# Altium schematic symbol library EwgMicrochips.SchLib: 118 symbols (part 1 of 2)
Pins are listed as number, name and electrical type; pins without a type are passive.

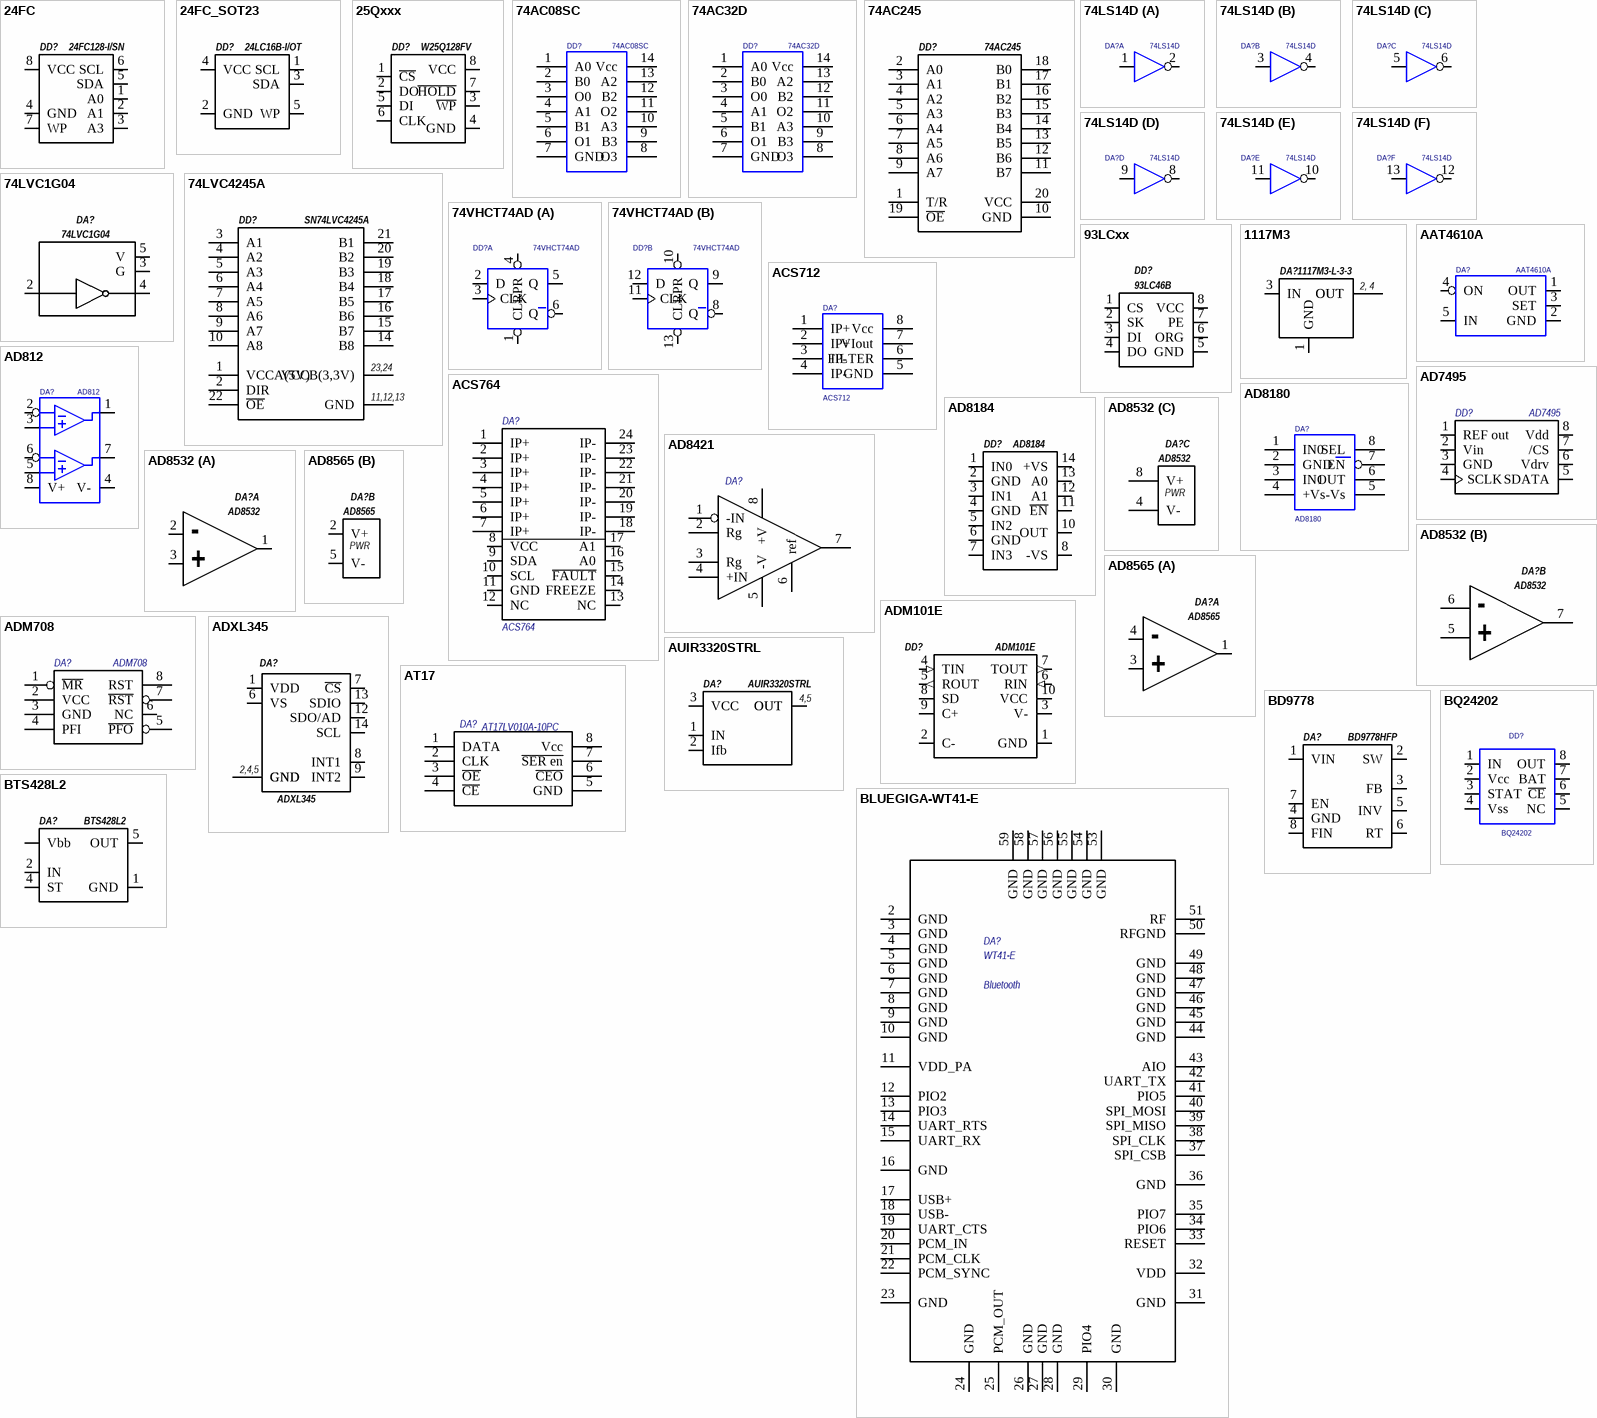
[diagram p0: symbols 24FC to BTS428L2]

## 24FC
designator DD?, comment 24FC128-I/SN
Память EEPROM; Производитель: Microchip; Тип корпуса: SO8; Тип монтажа: Поверхностный; Характеристики: 16КБ; Наименование: 24FC128-I/SN; Тип компонента: Память EEPROM
footprint SO8-3.9
pins: 1 A0, 2 A1, 3 A3, 4 GND, 5 SDA, 6 SCL, 7 WP, 8 VCC

## 24FC_SOT23
designator DD?, comment 24LC16B-I/OT
Память EEPROM; Производитель: Microchip; Тип корпуса: SO8; Тип монтажа: Поверхностный; Характеристики: 16Кбит; Наименование: 24LC16B-I/OT; Тип компонента: Память EEPROM
footprint SOT23-5
pins: 1 SCL, 2 GND, 3 SDA, 4 VCC, 5 WP

## 25Qxxx
designator DD?, comment W25Q128FV
Память EEPROM; Производитель: Winbond; Тип корпуса: SO8; Тип монтажа: Поверхностный; Характеристики: 16МБ; Наименование: W25Q128FV; Тип компонента: Память EEPROM
footprint SO8-5.3
pins: 1 ~{CS}, 2 DO, 3 ~{WP}, 4 GND, 5 DI, 6 CLK, 7 ~{HOLD}, 8 VCC

## 74AC08SC
designator DD?
Микросхема - Логика; Тип корпуса: SO14; Тип монтажа: Поверхностный; Value: *; Наименование: 74AC08SC; Тип компонента: Микросхема - Логика
footprint SO14
pins: 1 A0, 2 B0, 3 O0, 4 A1, 5 B1, 6 O1, 7 GND, 8 O3, 9 B3, 10 A3, 11 O2, 12 B2, 13 A2, 14 Vcc

## 74AC32D
designator DD?
Микросхема - Логика; Тип корпуса: SO14; Тип монтажа: Поверхностный; Value: *; Наименование: 74AC32D; Тип компонента: Микросхема - Логика
footprint SO14
pins: 1 A0, 2 B0, 3 O0, 4 A1, 5 B1, 6 O1, 7 GND, 8 O3, 9 B3, 10 A3, 11 O2, 12 B2, 13 A2, 14 Vcc

## 74AC245
designator DD?
Буфер приемо-передающий 8 кан.; Производитель: ON Semiconductor; Тип корпуса: SSOP20; Тип монтажа: Поверхностный; Наименование: 74AC245; Тип компонента: Буфер приемо-передающий 8 кан.
footprint SSOP20-4.4
pins: 1 T/R, 2 A0, 3 A1, 4 A2, 5 A3, 6 A4, 7 A5, 8 A6, 9 A7, 10 GND, 11 B7, 12 B6, 13 B5, 14 B4, 15 B3, 16 B2, 17 B1, 18 B0, 19 ~{OE}, 20 VCC

## 74LS14D
designator DA?
Микросхема - Логика; Тип корпуса: SO14; Тип монтажа: Поверхностный; Value: *; Наименование: 74LS14D; Тип компонента: Микросхема - Логика
footprint SO14
pins on every part: 7 GND (power) hidden, 14 5V (power) hidden
part A pins: 1, 2
part B pins: 3, 4
part C pins: 5, 6
part D pins: 8, 9
part E pins: 10, 11
part F pins: 12, 13

## 74LVC1G04
designator DA?
Логический элемент НЕ; Производитель: NXP; Тип монтажа: Поверхностный; Наименование: 74LVC1G04; Тип компонента: Логический элемент НЕ
footprint SOT323-5
pins: 2 A, 3 G, 4 Y, 5 V

## 74LVC4245A
designator DD?, comment SN74LVC4245A
Буфер приемо-передающий 8 кан.; Производитель: ON Semiconductor; Тип корпуса: SSOP20; Тип монтажа: Поверхностный; Наименование: SN74LVC4245A; Тип компонента: Буфер приемо-передающий 8 кан.
footprint SO24
pins: 1 VCCA(5V), 2 DIR, 3 A1, 4 A2, 5 A3, 6 A4, 7 A5, 8 A6, 9 A7, 10 A8, 11 GND, 12 GND, 13 GND, 14 B8, 15 B7, 16 B6, 17 B5, 18 B4, 19 B3, 20 B2, 21 B1, 22 ~{OE}, 23 VCCB(3,3V), 24 VCCB(3,3V)
text: 23,24; 11,12,13

## 74VHCT74AD
designator DD?
Микросхема - Логика; Тип корпуса: SO14; Тип монтажа: Поверхностный; Value: *; Наименование: 74VHCT74AD; Тип компонента: Микросхема - Логика
footprint SO14
pins on every part: 7 GND (power) hidden, 14 5V (power) hidden
part A pins: 1 CLR, 2 D, 3 CLK, 4 PR, 5 Q, 6 Q
part B pins: 8 Q, 9 Q, 10 PR, 11 CLK, 12 D, 13 CLR

## 93LCxx
designator DD?, comment 93LC46B
Память EEPROM; Тип корпуса: SO8; Тип монтажа: Поверхностный; Характеристики: 1Kбит; Наименование: 93LC46B; Тип компонента: Память EEPROM
footprint SO8-3.9
pins: 1 CS, 2 SK, 3 DI, 4 DO, 5 GND, 6 ORG, 7 PE, 8 VCC

## 1117M3
designator DA?, comment 1117M3-L-3-3
DC преобразователь линейный; Производитель: Exar Corporation; Тип корпуса: SOT223; Тип монтажа: Поверхностный; Характеристики: 3.3В 800мА; Наименование: 1117M3-L-3-3; Тип компонента: DC преобразователь линейный
footprint SOT223
footprint SOT223_P
pins: 1 GND, 2 OUT, 3 IN, 4 OUT
text: 2, 4

## AAT4610A
designator DA?
Электронный ключ; Наименование: Analog Tech, AAT4610A; Тип корпуса: SOT-23-5; Тип монтажа: Поверхностный; Value: *; Тип компонента: Электронный ключ
footprint SOT23-5
pins: 1 OUT, 2 GND, 3 SET, 4 ON, 5 IN

## ACS712
designator DA?
Датчик тока; Наименование: Allegro, ACS712ELCTR; Тип корпуса: SO8; Тип монтажа: Поверхностный; Value: *; Тип компонента: Датчик тока
footprint SO8
pins: 1 IP+, 2 IP+, 3 IP-, 4 IP-, 5 GND, 6 FILTER, 7 VIout, 8 Vcc

## ACS764
designator DA?
Датчик тока; Наименование: Allegro, ACS764; Примечание: GND-"30K"-"24K"-"43K"-VCC; Тип корпуса: SO8; Тип монтажа: Поверхностный; Value: *; Тип компонента: Датчик тока
footprint QSOP-24LF (SOP, 24-Leads, Body 8.8x4.0mm (max), Pitch 0.63mm,)
pins: 1 IP+, 2 IP+, 3 IP+, 4 IP+, 5 IP+, 6 IP+, 7 IP+, 8 VCC, 9 SDA, 10 SCL, 11 GND, 12 NC, 13 NC, 14 FREEZE, 15 ~{FAULT}, 16 A0, 17 A1, 18 IP-, 19 IP-, 20 IP-, 21 IP-, 22 IP-, 23 IP-, 24 IP-

## AD812
designator DA?
Микросхема - Операционный усилитель; Наименование: Analog Devices, AD812ARZ; Тип корпуса: SO8; Тип монтажа: Поверхностный; Value: *; Тип компонента: Микросхема - Операционный усилитель
footprint SO8
pins: 1, 2, 3, 4 V-, 5, 6, 7, 8 V+

## AD7495
designator DD?
Микросхема - 12-бит АЦП, SPI; Наименование: ANALOG DEVICES, AD7495; Тип корпуса: SO8; Тип монтажа: Поверхностный; Value: *; Тип компонента: Микросхема - 12-бит АЦП, SPI
footprint SO8
pins: 1 REF out "Ref out", 2 Vin, 3 GND, 4 SCLK "SPI CLOCK", 5 SDATA "SPI DATA OUT", 6 Vdrv "Logic power supply", 7 /CS "start conversion", 8 Vdd "Pwr supply"

## AD8180
designator DA?
Микросхема - Мультиплексор; Наименование: Analog Devices, AD8180ARZ; Тип корпуса: SO8; Тип монтажа: Поверхностный; Value: *; Тип компонента: Микросхема - Мультиплексор
footprint SO8
pins: 1 IN0, 2 GND, 3 IN1, 4 +Vs, 5 -Vs, 6 OUT, 7 EN, 8 SEL

## AD8184
designator DD?
Мультиплексор аналоговый 4:1; Производитель: Microchip; Тип корпуса: SO14; Тип монтажа: Поверхностный; Наименование: AD8184; Тип компонента: Мультиплексор аналоговый 4:1
footprint SO14-3.9
pins: 1 IN0, 2 GND, 3 IN1, 4 GND, 5 IN2, 6 GND, 7 IN3, 8 -VS, 10 OUT, 11 ~{EN}, 12 A1, 13 A0, 14 +VS

## AD8421
designator DA?  (value not drawn)
Микросхема - Иструментальный усилитель; Наименование: Analog Devices, AD8421BRZ; Тип корпуса: SO8; Тип монтажа: Поверхностный; Тип компонента: Микросхема - Иструментальный усилитель
footprint SO8
pins: 1 -IN, 2 Rg, 3 Rg, 4 +IN, 5 -V, 6 ref, 7 Vout, 8 +V

## AD8532
designator DA?
Операционный усилитель 2 кан.; Производитель: Analog Devices; Тип корпуса: SO8; Тип монтажа: Поверхностный; Характеристики: 2.7-6В, 250мА, rail-to-rail 50мВ, 3МГц; Наименование: AD8532; Тип компонента: Операционный усилитель 2 кан.
footprint SO8
part A pins: 1 outA, 2 -inA, 3 +inA
part B pins: 5 +inB, 6 -inB, 7 outB
part C pins: 4 V-, 8 V+
part A text: -; +
part B text: -; +
part C text: PWR

## AD8565
designator DA?
Операционный усилитель; Производитель: Analog Devices; Тип корпуса: SOT323-5; Тип монтажа: Поверхностный; Характеристики: 4.5-16В, 250мА, rail-to-rail 50мВ, 1МГц; Наименование: AD8565; Тип компонента: Операционный усилитель
footprint SOT323-5
part A pins: 1 outB, 3 +inB, 4 -inB
part B pins: 2 V+, 5 V-
part A text: -; +
part B text: PWR

## ADM101E
designator DD?
Интерфейс RS232; Производитель: Analog Devices; Тип корпуса: SOP10; Тип монтажа: Поверхностный; Наименование: ADM101E; Тип компонента: Интерфейс RS232
pins: 1 GND, 2 C-, 3 V-, 4 TIN (in), 5 ROUT (out), 6 RIN (in), 7 TOUT (out), 8 SD, 9 C+, 10 VCC

## ADM708
designator DA?
Монитор питания; Наименование: Analog devices, ADM708AR; Тип корпуса: SOIC8; Тип монтажа: Поверхностный; Value: ADM708; Тип компонента: Монитор питания
footprint SO8
pins: 1 ~{MR}, 2 VCC, 3 GND, 4 PFI, 5 ~{PFO}, 6 NC, 7 ~{RST}, 8 RST

## ADXL345
designator DA?
Акселерометр; Тип корпуса: LDA14; Тип монтажа: Поверхностный; Тип компонента: Акселерометр; Наименование: ADXL345
footprint LDA14
pins: 1 VDD, 2 GND, 4 GND, 5 GND, 6 VS, 7 ~{CS}, 8 INT1, 9 INT2, 12 SDO/AD, 13 SDIO, 14 SCL
text: 2,4,5

## AT17
designator DA?, comment AT17LV010A-10PC
PROM AT17; Наименование: AT17LV010A-10PC (ATMEL); Тип корпуса: DIP8; Тип монтажа: Штыревой; Value: AT17LV010A-10PC; Тип компонента: PROM AT17
footprint DIP8
pins: 1 DATA, 2 CLK, 3 ~{OE}, 4 ~{CE}, 5 GND, 6 ~{CEO}, 7 ~{SER en}, 8 Vcc

## AUIR3320STRL
designator DA?
Ключ интеллект. верхнего уровня; Производитель: Infineon; Тип корпуса: D2PAK; Тип монтажа: Поверхностный; Характеристики: 6...26В 55А 4мОм; Наименование: AUIR3320STRL; Тип компонента: Ключ интеллект. верхнего уровня
footprint TO263-5
pins: 1 IN, 2 Ifb, 3 VCC, 4 OUT, 5 OUT
text: 4,5

## BD9778
designator DA?, comment BD9778HFP
DC преобразователь понижающий; Производитель: ROHM; Тип компонента: Регулятор; Тип корпуса: HRP7; Тип монтажа: Поверхностный; Характеристики: 7...35В 2А; Наименование: BD9778HFP
footprint HRP7
pins: 1 VIN, 2 SW, 3 FB, 4 GND, 5 INV, 6 RT, 7 EN, 8 FIN

## BLUEGIGA-WT41-E
designator DA?, comment WT41-E
Bluetooth-модуль; Тип корпуса: WT41; Тип монтажа: Поверхностный; Производитель: Bluegiga; Наименование: WT41-E; Тип компонента: Bluetooth-модуль
footprint WT41-E
pins: 2 GND, 3 GND, 4 GND, 5 GND, 6 GND, 7 GND, 8 GND, 9 GND, 10 GND, 11 VDD_PA, 12 PIO2, 13 PIO3, 14 UART_RTS, 15 UART_RX, 16 GND, 17 USB+, 18 USB-, 19 UART_CTS, 20 PCM_IN, 21 PCM_CLK, 22 PCM_SYNC, 23 GND, 24 GND, 25 PCM_OUT, 26 GND, 27 GND, 28 GND, 29 PIO4, 30 GND, 31 GND, 32 VDD, 33 RESET, 34 PIO6, 35 PIO7, 36 GND, 37 SPI_CSB, 38 SPI_CLK, 39 SPI_MISO, 40 SPI_MOSI, 41 PIO5, 42 UART_TX, 43 AIO, 44 GND, 45 GND, 46 GND, 47 GND, 48 GND, 49 GND, 50 RFGND, 51 RF, 53 GND, 54 GND, 55 GND, 56 GND, 57 GND, 58 GND, 59 GND
text: Bluetooth

## BQ24202
designator DD?
Микросхема - Контроль заряда; Наименование: Texas Instruments, BQ24202DGN; Тип корпуса: HTSSOP; Тип монтажа: Поверхностный; Value: *; Тип компонента: Микросхема - Контроль заряда
footprint HTSSOP
pins: 1 IN, 2 Vcc, 3 STAT, 4 Vss, 5 NC, 6 ~{CE}, 7 BAT, 8 OUT

## BTS428L2
designator DA?
Ключ интеллект. верхнего уровня; Производитель: Infineon; Тип корпуса: TO252; Тип монтажа: Поверхностный; Характеристики: 4.75...41В 7А; Наименование: BTS428L2; Тип компонента: Ключ интеллект. верхнего уровня
footprint TO252-5-11
pins: 0 Vbb, 1 GND, 2 IN, 4 ST, 5 OUT

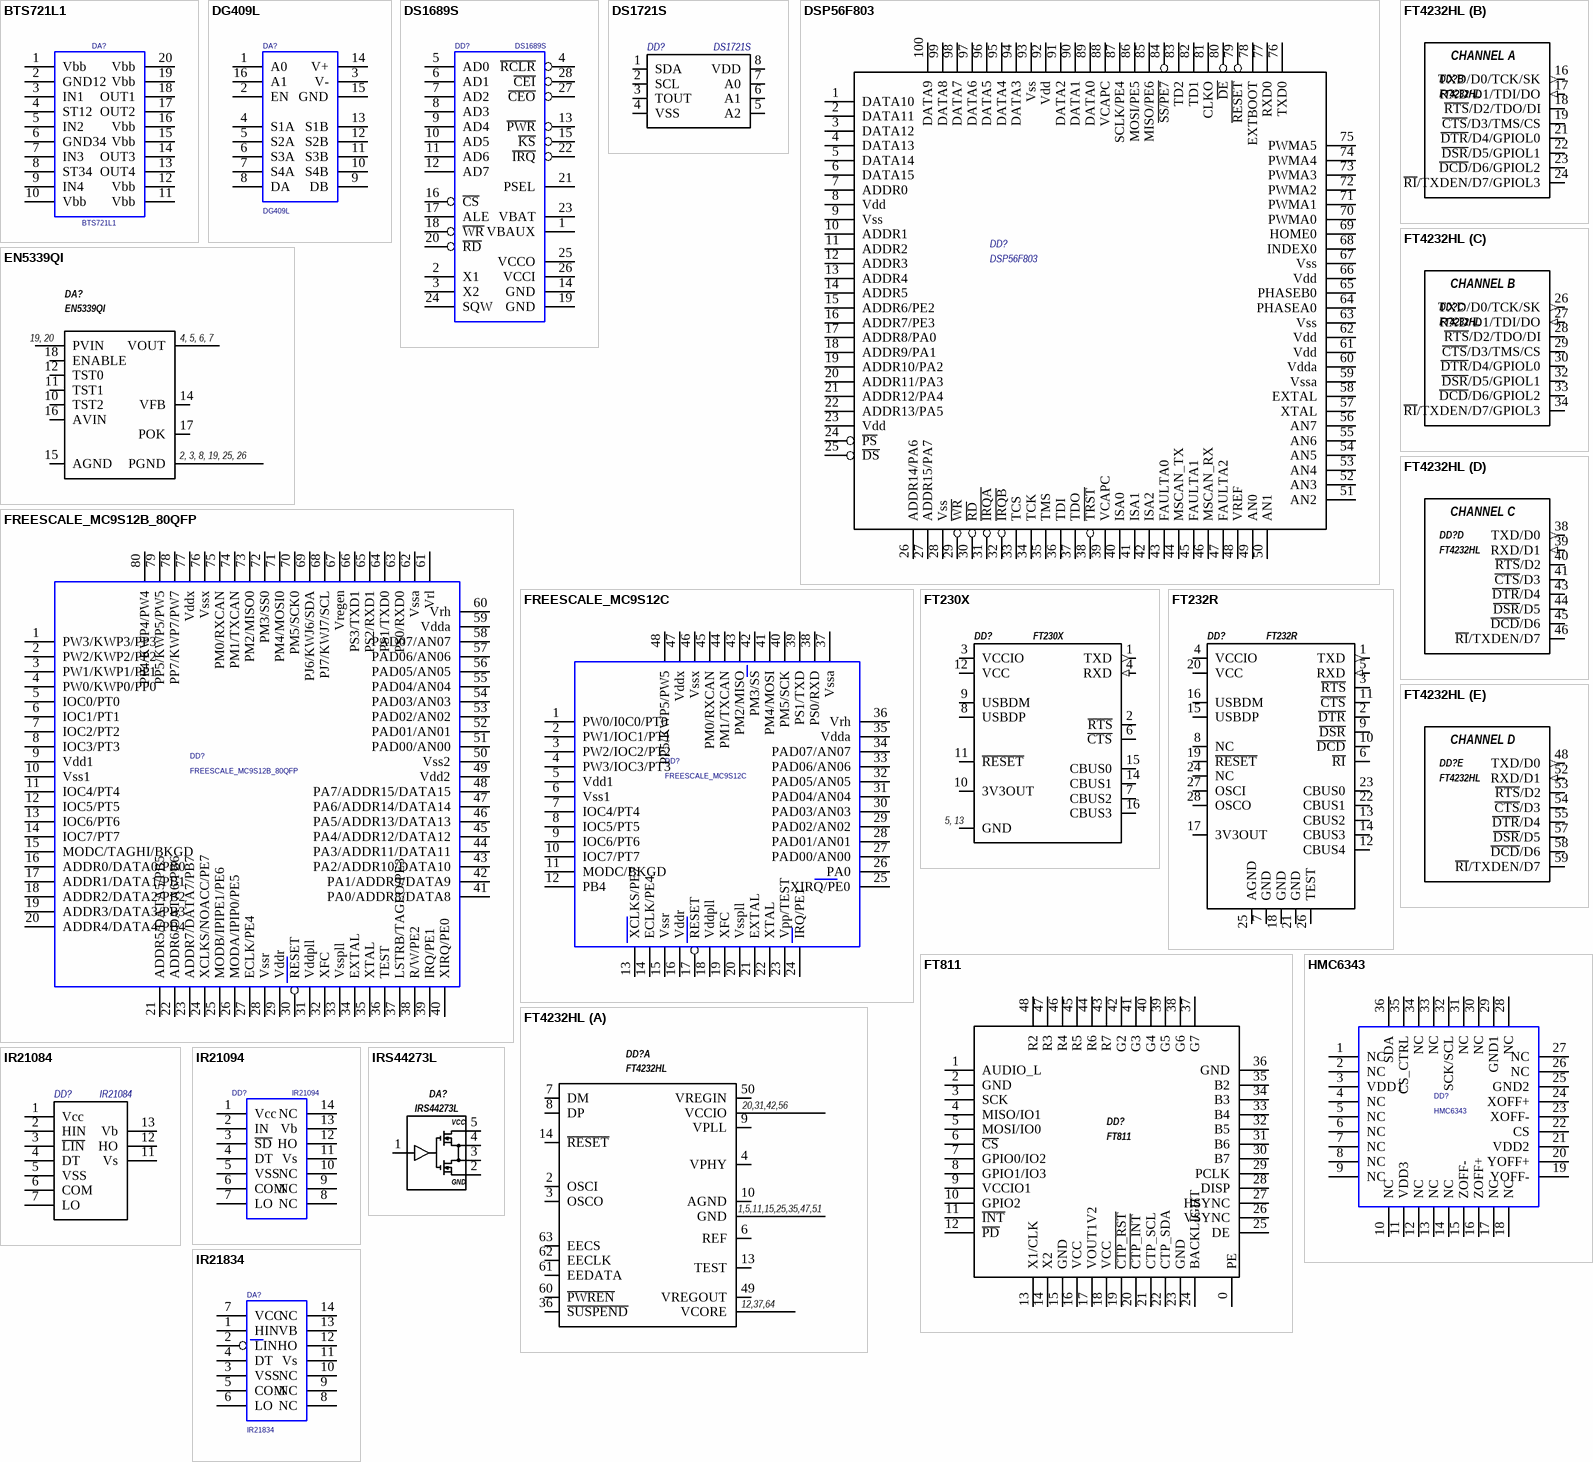
[diagram p1: symbols BTS721L1 to IRS44273L]

## BTS721L1
designator DA?
Сборка транзисторная; Наименование: Infineon Technologies, BTS721L1; Тип корпуса: SO20; Тип монтажа: Поверхностный; Value: *; Тип компонента: Сборка транзисторная
footprint SO20
pins: 1 Vbb, 2 GND12, 3 IN1, 4 ST12, 5 IN2, 6 GND34, 7 IN3, 8 ST34, 9 IN4, 10 Vbb, 11 Vbb, 12 Vbb, 13 OUT4, 14 OUT3, 15 Vbb, 16 Vbb, 17 OUT2, 18 OUT1, 19 Vbb, 20 Vbb

## DG409L
designator DA?
Микросхема - Мультиплексор; Наименование: Vishay, DG409LDY-E3; Тип корпуса: SO16; Тип монтажа: Поверхностный; Value: *; Тип компонента: Микросхема - Мультиплексор
footprint SO16
pins: 1 A0, 2 EN, 3 V-, 4 S1A, 5 S2A, 6 S3A, 7 S4A, 8 DA, 9 DB, 10 S4B, 11 S3B, 12 S2B, 13 S1B, 14 V+, 15 GND, 16 A1

## DS1689S
designator DD?
Микросхема - Таймер; Тип корпуса: SOIC-28 (330MIL); Тип монтажа: Поверхностный; Value: *; Наименование: DS1689S; Тип компонента: Микросхема - Таймер
footprint SOIC-28 (330MIL)
pins: 1 VBAUX, 2 X1, 3 X2, 4 ~{RCLR}, 5 AD0, 6 AD1, 7 AD2, 8 AD3, 9 AD4, 10 AD5, 11 AD6, 12 AD7, 13 ~{PWR}, 14 GND, 15 ~{KS}, 16 ~{CS}, 17 ALE, 18 ~{WR}, 19 GND, 20 ~{RD}, 21 PSEL, 22 ~{IRQ}, 23 VBAT, 24 SQW, 25 VCCO, 26 VCCI, 27 ~{CEO}, 28 ~{CEI}

## DS1721S
designator DD?
Термометр цифровой; Наименование: Dallas Semiconductor, DS1721S; Тип корпуса: SO8; Тип монтажа: Поверхностный; Value: *; Тип компонента: Термометр цифровой
footprint SO8
pins: 1 SDA, 2 SCL, 3 TOUT, 4 VSS, 5 A2, 6 A1, 7 A0, 8 VDD

## DSP56F803
designator DD?
Микроконтроллер; Наименование: Freescale, DSP56F803BU80E; Тип корпуса: LQFP100; Тип монтажа: Поверхностный; Value: *; Тип компонента: Микроконтроллер
footprint LQFP100
pins: 1 DATA10, 2 DATA11, 3 DATA12, 4 DATA13, 5 DATA14, 6 DATA15, 7 ADDR0, 8 Vdd, 9 Vss, 10 ADDR1, 11 ADDR2, 12 ADDR3, 13 ADDR4, 14 ADDR5, 15 ADDR6/PE2, 16 ADDR7/PE3, 17 ADDR8/PA0, 18 ADDR9/PA1, 19 ADDR10/PA2, 20 ADDR11/PA3, 21 ADDR12/PA4, 22 ADDR13/PA5, 23 Vdd, 24 ~{PS}, 25 ~{DS}, 26 ADDR14/PA6, 27 ADDR15/PA7, 28 Vss, 29 ~{WR}, 30 ~{RD}, 31 ~{IRQA}, 32 ~{IRQB}, 33 TCS, 34 TCK, 35 TMS, 36 TDI, 37 TDO, 38 ~{TRST}, 39 VCAPC, 40 ISA0, 41 ISA1, 42 ISA2, 43 FAULTA0, 44 MSCAN_TX, 45 FAULTA1, 46 MSCAN_RX, 47 FAULTA2, 48 VREF, 49 AN0, 50 AN1, 51 AN2, 52 AN3, 53 AN4, 54 AN5, 55 AN6, 56 AN7, 57 XTAL, 58 EXTAL, 59 Vssa, 60 Vdda, 61 Vdd, 62 Vdd, 63 Vss, 64 PHASEA0, 65 PHASEB0, 66 Vdd, 67 Vss, 68 INDEX0, 69 HOME0, 70 PWMA0, 71 PWMA1, 72 PWMA2, 73 PWMA3, 74 PWMA4, 75 PWMA5, 76 TXD0, 77 RXD0, 78 EXTBOOT, 79 ~{RESET}, 80 ~{DE}, 81 CLKO, 82 TD1, 83 TD2, 84 ~{SS/PE7}, 85 MISO/PE6, 86 MOSI/PE5, 87 SCLK/PE4, 88 VCAPC, 89 DATA0, 90 DATA1, 91 DATA2, 92 Vdd, 93 Vss, 94 DATA3, 95 DATA4, 96 DATA5, 97 DATA6, 98 DATA7, 99 DATA8, 100 DATA9

## EN5339QI
designator DA?
DC преобразователь понижающий; Производитель: Altera; Тип монтажа: Поверхностный; Характеристики: 2.4-5.5Ввх 0.6-5.0Ввых 3А; Наименование: EN5339QI; Тип компонента: DC преобразователь понижающий
footprint EN5339QI
pins: 2 PGND, 3 PGND, 4 VOUT, 5 VOUT, 6 VOUT, 7 VOUT, 8 PGND, 9 PGND, 10 TST2, 11 TST1, 12 TST0, 14 VFB, 15 AGND, 16 AVIN, 17 POK, 18 ENABLE, 19 PVIN, 20 PVIN, 25 PGND, 26 PGND
text: 19, 20; 4, 5, 6, 7; 2, 3, 8, 19, 25, 26

## FREESCALE_MC9S12B_80QFP
designator DD?
Микроконтроллер; Наименование: Freescale, MC9S12B128MFUE; Тип корпуса: QFP80; Тип монтажа: Поверхностный; Value: *; Тип компонента: Микроконтроллер
footprint QFP80
pins: 1 PW3/KWP3/PP3, 2 PW2/KWP2/PP2, 3 PW1/KWP1/PP1, 4 PW0/KWP0/PP0, 5 IOC0/PT0, 6 IOC1/PT1, 7 IOC2/PT2, 8 IOC3/PT3, 9 Vdd1, 10 Vss1, 11 IOC4/PT4, 12 IOC5/PT5, 13 IOC6/PT6, 14 IOC7/PT7, 15 MODC/TAGHI/BKGD, 16 ADDR0/DATA0/PB0, 17 ADDR1/DATA1/PB1, 18 ADDR2/DATA2/PB2, 19 ADDR3/DATA3/PB3, 20 ADDR4/DATA4/PB4, 21 ADDR5/DATA5/PB5, 22 ADDR6/DATA6/PB6, 23 ADDR7/DATA7/PB7, 24 XCLKS/NOACC/PE7, 25 MODB/IPIPE1/PE6, 26 MODA/IPIP0/PE5, 27 ECLK/PE4, 28 Vssr, 29 Vddr, 30 RESET, 31 Vddpll, 32 XFC, 33 Vsspll, 34 EXTAL, 35 XTAL, 36 TEST, 37 LSTRB/TAGLO/PE3, 38 R/W/PE2, 39 IRQ/PE1, 40 XIRQ/PE0, 41 PA0/ADDR8/DATA8, 42 PA1/ADDR9/DATA9, 43 PA2/ADDR10/DATA10, 44 PA3/ADDR11/DATA11, 45 PA4/ADDR12/DATA12, 46 PA5/ADDR13/DATA13, 47 PA6/ADDR14/DATA14, 48 PA7/ADDR15/DATA15, 49 Vdd2, 50 Vss2, 51 PAD00/AN00, 52 PAD01/AN01, 53 PAD02/AN02, 54 PAD03/AN03, 55 PAD04/AN04, 56 PAD05/AN05, 57 PAD06/AN06, 58 PAD07/AN07, 59 Vdda, 60 Vrh, 61 Vrl, 62 Vssa, 63 PS0/RXD0, 64 PS1/TXD0, 65 PS2/RXD1, 66 PS3/TXD1, 67 Vregen, 68 PJ7/KWJ7/SCL, 69 PJ6/KWJ6/SDA, 70 PM5/SCK0, 71 PM4/MOSI0, 72 PM3/SS0, 73 PM2/MISO0, 74 PM1/TXCAN, 75 PM0/RXCAN, 76 Vssx, 77 Vddx, 78 PP7/KWP7/PW7, 79 PP5/KWP5/PW5, 80 PP4/KWP4/PW4

## FREESCALE_MC9S12C
designator DD?
Микроконтроллер; Наименование: Freescale, MC9S12C64CFAE; Тип корпуса: 48LQFP; Тип монтажа: Поверхностный; Value: *; Тип компонента: Микроконтроллер
footprint LQFP48
pins: 1 PW0/I0C0/PT0, 2 PW1/IOC1/PT1, 3 PW2/IOC2/PT2, 4 PW3/IOC3/PT3, 5 Vdd1, 6 Vss1, 7 IOC4/PT4, 8 IOC5/PT5, 9 IOC6/PT6, 10 IOC7/PT7, 11 MODC/BKGD, 12 PB4, 13 XCLKS/PE7, 14 ECLK/PE4, 15 Vssr, 16 Vddr, 17 RESET, 18 Vddpll, 19 XFC, 20 Vsspll, 21 EXTAL, 22 XTAL, 23 Vpp/TEST, 24 IRQ/PE1, 25 XIRQ/PE0, 26 PA0, 27 PAD00/AN00, 28 PAD01/AN01, 29 PAD02/AN02, 30 PAD03/AN03, 31 PAD04/AN04, 32 PAD05/AN05, 33 PAD06/AN06, 34 PAD07/AN07, 35 Vdda, 36 Vrh, 37 Vssa, 38 PS0/RXD, 39 PS1/TXD, 40 PM5/SCK, 41 PM4/MOSI, 42 PM3/SS, 43 PM2/MISO, 44 PM1/TXCAN, 45 PM0/RXCAN, 46 Vssx, 47 Vddx, 48 PP5/KWP5/PW5

## FT230X
designator DD?
Интерфейс USB-UART; Производитель: FTDI; Тип корпуса: SSOP-16; Тип монтажа: Поверхностный; Наименование: FT230X; Тип компонента: Интерфейс USB-UART
footprint SSOP16-4.4
pins: 1 TXD (out), 2 ~{RTS}, 3 VCCIO, 4 RXD (in), 5 GND, 6 ~{CTS}, 7 CBUS2, 8 USBDP, 9 USBDM, 10 3V3OUT, 11 ~{RESET}, 12 VCC, 13 GND, 14 CBUS1, 15 CBUS0, 16 CBUS3
text: 5, 13

## FT232R
designator DD?
Интерфейс USB-UART; Производитель: FTDI; Тип корпуса: SSOP-28; Тип монтажа: Поверхностный; Наименование: FT232R; Тип компонента: Интерфейс USB-UART
footprint SSOP-28
pins: 1 TXD (out), 2 ~{DTR}, 3 ~{RTS}, 4 VCCIO, 5 RXD (in), 6 ~{RI}, 7 GND, 8 NC, 9 ~{DSR}, 10 ~{DCD}, 11 ~{CTS}, 12 CBUS4, 13 CBUS2, 14 CBUS3, 15 USBDP, 16 USBDM, 17 3V3OUT, 18 GND, 19 ~{RESET}, 20 VCC, 21 GND, 22 CBUS1, 23 CBUS0, 24 NC, 25 AGND, 26 TEST, 27 OSCI, 28 OSCO

## FT811
designator DD?
Контроллер LCD дисплея; Производитель: FTDI; Тип корпуса: VQFN48; Тип монтажа: Поверхностный; Характеристики: 800х600, 18 бит, емкостный touchscreen; Наименование: FT811; Тип компонента: Контроллер LCD дисплея
footprint VQFN48
pins: 0 PE, 1 AUDIO_L, 2 GND, 3 SCK, 4 MISO/IO1, 5 MOSI/IO0, 6 ~{CS}, 7 GPIO0/IO2, 8 GPIO1/IO3, 9 VCCIO1, 10 GPIO2, 11 ~{INT}, 12 ~{PD}, 13 X1/CLK, 14 X2, 15 GND, 16 VCC, 17 VOUT1V2, 18 VCC, 19 ~{CTP_RST}, 20 ~{CTP_INT}, 21 CTP_SCL, 22 CTP_SDA, 23 GND, 24 BACKLIGHT, 25 DE, 26 VSYNC, 27 HSYNC, 28 DISP, 29 PCLK, 30 B7, 31 B6, 32 B5, 33 B4, 34 B3, 35 B2, 36 GND, 37 G7, 38 G6, 39 G5, 40 G4, 41 G3, 42 G2, 43 R7, 44 R6, 45 R5, 46 R4, 47 R3, 48 R2

## FT4232HL
designator DD?
Интерфейс USB-UART 4 кан.; Производитель: FTDI; Тип корпуса: LQFP64; Тип монтажа: Поверхностный; Наименование: FT4232HL; Тип компонента: Интерфейс USB-UART 4 кан.
footprint LQFP64
part A pins: 1 GND, 2 OSCI, 3 OSCO, 4 VPHY, 5 GND, 6 REF, 7 DM, 8 DP, 9 VPLL, 10 AGND, 11 GND, 12 VCORE, 13 TEST, 14 ~{RESET}, 15 GND, 20 VCCIO, 25 GND, 31 VCCIO, 35 GND, 36 ~{SUSPEND}, 37 VCORE, 42 VCCIO, 47 GND, 49 VREGOUT, 50 VREGIN, 51 GND, 56 VCCIO, 60 ~{PWREN}, 61 EEDATA, 62 EECLK, 63 EECS, 64 VCORE
part B pins: 16 TXD/D0/TCK/SK (out), 17 RXD/D1/TDI/DO (in), 18 ~{RTS}/D2/TDO/DI, 19 ~{CTS}/D3/TMS/CS, 21 ~{DTR}/D4/GPIOL0, 22 ~{DSR}/D5/GPIOL1, 23 ~{DCD}/D6/GPIOL2, 24 ~{RI}/TXDEN/D7/GPIOL3
part C pins: 26 TXD/D0/TCK/SK (out), 27 RXD/D1/TDI/DO (in), 28 ~{RTS}/D2/TDO/DI, 29 ~{CTS}/D3/TMS/CS, 30 ~{DTR}/D4/GPIOL0, 32 ~{DSR}/D5/GPIOL1, 33 ~{DCD}/D6/GPIOL2, 34 ~{RI}/TXDEN/D7/GPIOL3
part D pins: 38 TXD/D0 (out), 39 RXD/D1 (in), 40 ~{RTS}/D2, 41 ~{CTS}/D3, 43 ~{DTR}/D4, 44 ~{DSR}/D5, 45 ~{DCD}/D6, 46 ~{RI}/TXDEN/D7
part E pins: 48 TXD/D0 (out), 52 RXD/D1 (in), 53 ~{RTS}/D2, 54 ~{CTS}/D3, 55 ~{DTR}/D4, 57 ~{DSR}/D5, 58 ~{DCD}/D6, 59 ~{RI}/TXDEN/D7
part A text: 20,31,42,56; 1,5,11,15,25,35,47,51; 12,37,64
part B text: CHANNEL A
part C text: CHANNEL B
part D text: CHANNEL C
part E text: CHANNEL D

## HMC6343
designator DD?
Датчик - Акселерометр; Наименование: Honeywell Microelectronics, HMC6343; Тип корпуса: PLCC-32; Тип монтажа: Поверхностный; Тип компонента: Датчик - Акселерометр
footprint PLCC-32
pins: 1 NC, 2 NC, 3 VDD1, 4 NC, 5 NC, 6 NC, 7 NC, 8 NC, 9 NC, 10 NC, 11 VDD3, 12 NC, 13 NC, 14 NC, 15 ZOFF-, 16 ZOFF+, 17 NC, 18 NC, 19 YOFF-, 20 YOFF+, 21 VDD2, 22 CS, 23 XOFF-, 24 XOFF+, 25 GND2, 26 NC, 27 NC, 28 NC, 29 GND1, 30 NC, 31 NC, 32 SCK/SCL, 33 NC, 34 NC, 35 CS_CTRL, 36 SDA

## IR21084
designator DD?
Микросхема - Драйвер MOSFET; Наименование: International Rectifier, IR21084S; Тип корпуса: SO14; Тип монтажа: Поверхностный; Value: *; Тип компонента: Микросхема - Драйвер MOSFET
footprint SO14
pins: 1 Vcc, 2 HIN, 3 ~{LIN}, 4 DT, 5 VSS, 6 COM, 7 LO, 11 Vs, 12 HO, 13 Vb

## IR21094
designator DD?
Микросхема - Драйвер MOSFET; Наименование: International Rectifier, IR21094S; Тип корпуса: SO14; Тип монтажа: Поверхностный; Value: *; Тип компонента: Микросхема - Драйвер MOSFET
footprint SO14
pins: 1 Vcc, 2 IN, 3 ~{SD}, 4 DT, 5 VSS, 6 COM, 7 LO, 8 NC, 9 NC, 10 NC, 11 Vs, 12 HO, 13 Vb, 14 NC

## IR21834
designator DA?
Микросхема - Драйвер MOSFET; Наименование: International Rectifier, IR21034S; Тип корпуса: SO14; Тип монтажа: Поверхностный; Value: *; Тип компонента: Микросхема - Драйвер MOSFET
footprint SO14
pins: 1 HIN, 2 LIN, 3 VSS, 4 DT, 5 COM, 6 LO, 7 VCC, 8 NC, 9 NC, 10 NC, 11 Vs, 12 HO, 13 VB, 14 NC

## IRS44273L
designator DA?
Драйвер MOSFET нижнего плеча; Производитель: International Rectifier; Тип корпуса: SOT23-5; Тип монтажа: Поверхностный; Характеристики: 25В, 1.5А, 50нс; Наименование: IRS44273L; Тип компонента: Драйвер MOSFET нижнего плеча
footprint WSON12_P
pins: 1 IN, 2 COM, 3 OUT, 4 OUT, 5 VCC
text: GND

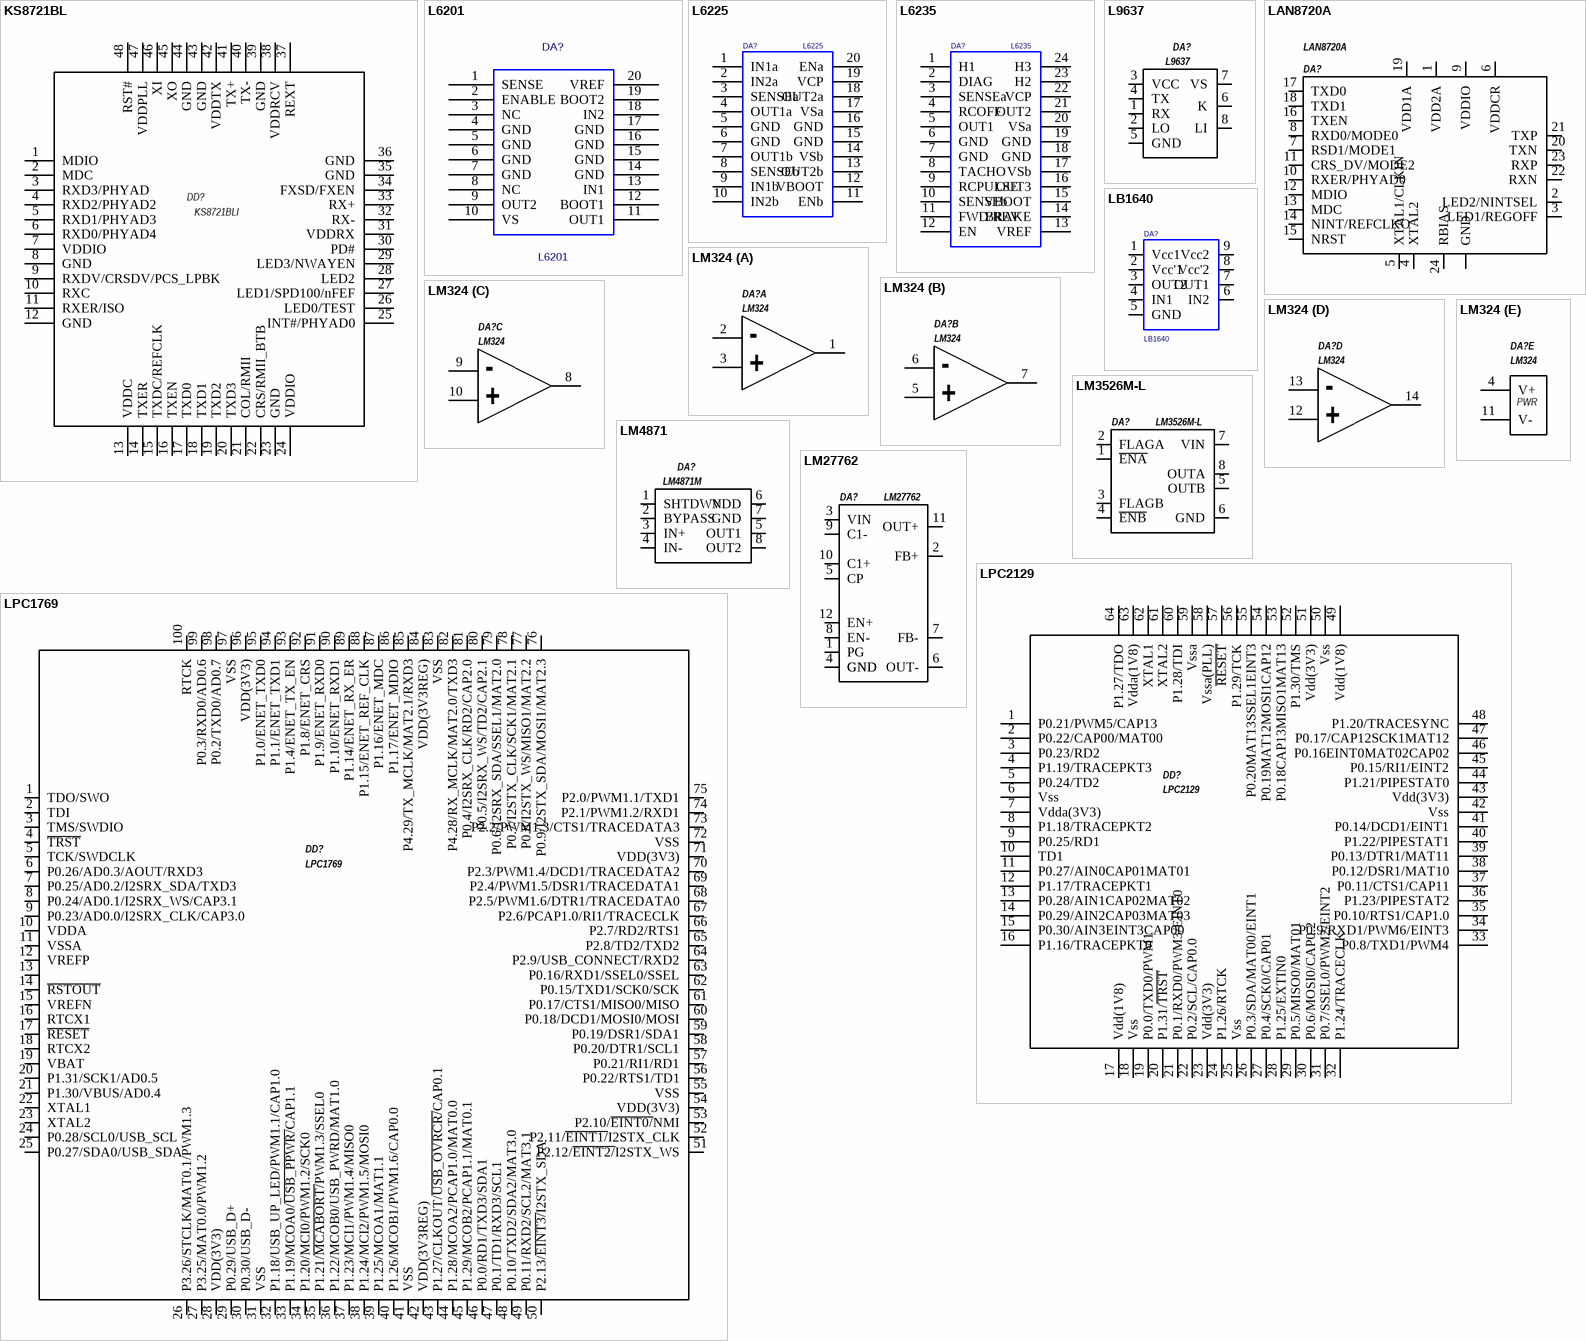
[diagram p2: symbols KS8721BL to LPC2129]

## KS8721BL
designator DD?, comment KS8721BLI
Контроллер Ethernet; Наименование: Micrel, KS8721BLI; Тип корпуса: LQFP-48; Тип монтажа: Поверхностный; Value: *; Тип компонента: Контроллер Ethernet
footprint LQFP48
pins: 1 MDIO, 2 MDC, 3 RXD3/PHYAD, 4 RXD2/PHYAD2, 5 RXD1/PHYAD3, 6 RXD0/PHYAD4, 7 VDDIO, 8 GND, 9 RXDV/CRSDV/PCS_LPBK, 10 RXC, 11 RXER/ISO, 12 GND, 13 VDDC, 14 TXER, 15 TXDC/REFCLK, 16 TXEN, 17 TXD0, 18 TXD1, 19 TXD2, 20 TXD3, 21 COL/RMII, 22 CRS/RMII_BTB, 23 GND, 24 VDDIO, 25 INT#/PHYAD0, 26 LED0/TEST, 27 LED1/SPD100/nFEF, 28 LED2, 29 LED3/NWAYEN, 30 PD#, 31 VDDRX, 32 RX-, 33 RX+, 34 FXSD/FXEN, 35 GND, 36 GND, 37 REXT, 38 VDDRCV, 39 GND, 40 TX-, 41 TX+, 42 VDDTX, 43 GND, 44 GND, 45 XO, 46 XI, 47 VDDPLL, 48 RST#

## L6201
designator DA?
Микросхема - Драйвер двигателя; Наименование: ST Microelectronics, L6201; Тип корпуса: SO20; Тип монтажа: Поверхностный; Value: *; Тип компонента: Микросхема - Драйвер двигателя
footprint SO20
pins: 1 SENSE, 2 ENABLE, 3 NC, 4 GND, 5 GND, 6 GND, 7 GND, 8 NC, 9 OUT2, 10 VS, 11 OUT1, 12 BOOT1, 13 IN1, 14 GND, 15 GND, 16 GND, 17 GND, 18 IN2, 19 BOOT2, 20 VREF

## L6225
designator DA?
Микросхема - Драйвер двигателя; Наименование: ST Microelectronics, L6225D; Тип корпуса: SO20; Тип монтажа: Поверхностный; Value: *; Тип компонента: Микросхема - Драйвер двигателя
footprint SO20
pins: 1 IN1a, 2 IN2a, 3 SENSEa, 4 OUT1a, 5 GND, 6 GND, 7 OUT1b, 8 SENSEb, 9 IN1b, 10 IN2b, 11 ENb, 12 VBOOT, 13 OUT2b, 14 VSb, 15 GND, 16 GND, 17 VSa, 18 OUT2a, 19 VCP, 20 ENa

## L6235
designator DA?
Микросхема - Драйвер двигателя; Наименование: ST Microelectronics, L6235D; Тип корпуса: SO24; Тип монтажа: Поверхностный; Value: *; Тип компонента: Микросхема - Драйвер двигателя
footprint SO24
pins: 1 H1, 2 DIAG, 3 SENSEa, 4 RCOFF, 5 OUT1, 6 GND, 7 GND, 8 TACHO, 9 RCPULSE, 10 SENSEb, 11 FWD/REV, 12 EN, 13 VREF, 14 BRAKE, 15 VBOOT, 16 OUT3, 17 VSb, 18 GND, 19 GND, 20 VSa, 21 OUT2, 22 VCP, 23 H2, 24 H3

## L9637
designator DA?
Интерфейс K-Line; Производитель: ST Microelectronics; Тип корпуса: SO8; Тип монтажа: Поверхностный; Наименование: L9637; Тип компонента: Интерфейс K-Line
footprint SO8
pins: 1 RX, 2 LO, 3 VCC, 4 TX, 5 GND, 6 K, 7 VS, 8 LI

## LAN8720A
designator DA?
Интерфейс Ethernet; Производитель: SMSC; Тип корпуса: VQFN24; Тип монтажа: Поверхностный; Характеристики: 10/100Мбит; Наименование: LAN8720A; Тип компонента: Интерфейс Ethernet
footprint LAN8720
pins: 0 GND, 1 VDD2A, 2 LED2/NINTSEL, 3 LED1/REGOFF, 4 XTAL2, 5 XTAL1/CLKIN, 6 VDDCR, 7 RSD1/MODE1, 8 RXD0/MODE0, 9 VDDIO, 10 RXER/PHYAD0, 11 CRS_DV/MODE2, 12 MDIO, 13 MDC, 14 NINT/REFCLKO, 15 NRST, 16 TXEN, 17 TXD0, 18 TXD1, 19 VDD1A, 20 TXN, 21 TXP, 22 RXN, 23 RXP, 24 RBIAS

## LB1640
designator DA?
Микросхема - Драйвер двигателя; Наименование: Sanyo, LB1640N; Тип корпуса: SIP10F; Тип монтажа: Штыревой; Value: *; Тип компонента: Микросхема - Драйвер двигателя
footprint SIP10F
pins: 1 Vcc1, 2 Vcc'1, 3 OUT2, 4 IN1, 5 GND, 6 IN2, 7 OUT1, 8 Vcc'2, 9 Vcc2, 10 hidden

## LM324
designator DA?
Операционный усилитель; Производитель: National Semiconductor; Тип корпуса: SO14; Тип монтажа: Поверхностный; Характеристики: 3-32В, 1МГц; Наименование: LM324; Тип компонента: Операционный усилитель
footprint SO14
part A pins: 1 outA, 2 -inA, 3 +inA
part B pins: 5 +inB, 6 -inB, 7 outB
part C pins: 8 outC, 9 -inC, 10 +inC
part D pins: 12 +inD, 13 -inD, 14 outD
part E pins: 4 V+, 11 V-
part A text: -; +
part B text: -; +
part C text: -; +
part D text: -; +
part E text: PWR

## LM3526M-L
designator DA?
Интерфейс USB контроллер питания 2 кан.; Производитель: Texas Instruments; Тип корпуса: SO8; Тип монтажа: Поверхностный; Наименование: LM3526M-L; Тип компонента: Интерфейс USB контроллер питания 2 кан.
footprint SO8
pins: 1 ~{ENA}, 2 FLAGA, 3 FLAGB, 4 ~{ENB}, 5 OUTB, 6 GND, 7 VIN, 8 OUTA

## LM4871
designator DA?, comment LM4871M
Усилитель аудио; Производитель: Texas Instruments; Тип корпуса: SO8; Тип монтажа: Поверхностный; Характеристики: 1.5Вт 8Ом; Наименование: LM4871M; Тип компонента: Усилитель аудио
footprint SO8
pins: 1 SHTDWN, 2 BYPASS, 3 IN+, 4 IN-, 5 OUT1, 6 VDD, 7 GND, 8 OUT2

## LM27762
designator DA?
DC преобразователь двухполярный импульсный; Производитель: Texas Instruments; Тип корпуса: WSON12; Тип монтажа: Поверхностный; Наименование: LM27762; Тип компонента: DC преобразователь двухполярный импульсный
pins: 0 GND, 1 PG, 2 FB+, 3 VIN, 4 GND, 5 CP, 6 OUT-, 7 FB-, 8 EN-, 9 C1-, 10 C1+, 11 OUT+, 12 EN+

## LPC1769
designator DD?
Микроконтроллер; Примечание: NXP; Тип корпуса: LQFP100; Тип монтажа: Поверхностный; Наименование: LPC1769; Тип компонента: Микроконтроллер
footprint LQFP100
pins: 1 TDO/SWO, 2 TDI, 3 TMS/SWDIO, 4 ~{TRST}, 5 TCK/SWDCLK, 6 P0.26/AD0.3/AOUT/RXD3, 7 P0.25/AD0.2/I2SRX_SDA/TXD3, 8 P0.24/AD0.1/I2SRX_WS/CAP3.1, 9 P0.23/AD0.0/I2SRX_CLK/CAP3.0, 10 VDDA, 11 VSSA, 12 VREFP, 13, 14 ~{RSTOUT}, 15 VREFN, 16 RTCX1, 17 ~{RESET}, 18 RTCX2, 19 VBAT, 20 P1.31/SCK1/AD0.5, 21 P1.30/VBUS/AD0.4, 22 XTAL1, 23 XTAL2, 24 P0.28/SCL0/USB_SCL, 25 P0.27/SDA0/USB_SDA, 26 P3.26/STCLK/MAT0.1/PWM1.3, 27 P3.25/MAT0.0/PWM1.2, 28 VDD(3V3), 29 P0.29/USB_D+, 30 P0.30/USB_D-, 31 VSS, 32 P1.18/USB_UP_LED/PWM1.1/CAP1.0, 33 P1.19/MCOA0/~{USB_PPWR/}CAP1.1, 34 P1.20/MCI0/PWM1.2/SCK0, 35 P1.21/~{MCABORT/}PWM1.3/SSEL0, 36 P1.22/MCOB0/USB_PWRD/MAT1.0, 37 P1.23/MCI1/PWM1.4/MISO0, 38 P1.24/MCI2/PWM1.5/MOSI0, 39 P1.25/MCOA1/MAT1.1, 40 P1.26/MCOB1/PWM1.6/CAP0.0, 41 VSS, 42 VDD(3V3REG), 43 P1.27/CLKOUT/~{USB_OVRCR/}CAP0.1, 44 P1.28/MCOA2/PCAP1.0/MAT0.0, 45 P1.29/MCOB2/PCAP1.1/MAT0.1, 46 P0.0/RD1/TXD3/SDA1, 47 P0.1/TD1/RXD3/SCL1, 48 P0.10/TXD2/SDA2/MAT3.0, 49 P0.11/RXD2/SCL2/MAT3.1, 50 P2.13/~{EINT3/}I2STX_SDA, 51 P2.12/~{EINT2/}I2STX_WS, 52 P2.11/~{EINT1/}I2STX_CLK, 53 P2.10/~{EINT0/}NMI, 54 VDD(3V3), 55 VSS, 56 P0.22/RTS1/TD1, 57 P0.21/RI1/RD1, 58 P0.20/DTR1/SCL1, 59 P0.19/DSR1/SDA1, 60 P0.18/DCD1/MOSI0/MOSI, 61 P0.17/CTS1/MISO0/MISO, 62 P0.15/TXD1/SCK0/SCK, 63 P0.16/RXD1/SSEL0/SSEL, 64 P2.9/USB_CONNECT/RXD2, 65 P2.8/TD2/TXD2, 66 P2.7/RD2/RTS1, 67 P2.6/PCAP1.0/RI1/TRACECLK, 68 P2.5/PWM1.6/DTR1/TRACEDATA0, 69 P2.4/PWM1.5/DSR1/TRACEDATA1, 70 P2.3/PWM1.4/DCD1/TRACEDATA2, 71 VDD(3V3), 72 VSS, 73 P2.2/PWM1.3/CTS1/TRACEDATA3, 74 P2.1/PWM1.2/RXD1, 75 P2.0/PWM1.1/TXD1, 76 P0.9/I2STX_SDA/MOSI1/MAT2.3, 77 P0.8/I2STX_WS/MISO1/MAT2.2, 78 P0.7/I2STX_CLK/SCK1/MAT2.1, 79 P0.6/I2SRX_SDA/SSEL1/MAT2.0, 80 P0.5/I2SRX_WS/TD2/CAP2.1, 81 P0.4/I2SRX_CLK/RD2/CAP2.0, 82 P4.28/RX_MCLK/MAT2.0/TXD3, 83 VSS, 84 VDD(3V3REG), 85 P4.29/TX_MCLK/MAT2.1/RXD3, 86 P1.17/ENET_MDIO, 87 P1.16/ENET_MDC, 88 P1.15/ENET_REF_CLK, 89 P1.14/ENET_RX_ER, 90 P1.10/ENET_RXD1, 91 P1.9/ENET_RXD0, 92 P1.8/ENET_CRS, 93 P1.4/ENET_TX_EN, 94 P1.1/ENET_TXD1, 95 P1.0/ENET_TXD0, 96 VDD(3V3), 97 VSS, 98 P0.2/TXD0/AD0.7, 99 P0.3/RXD0/AD0.6, 100 RTCK

## LPC2129
designator DD?
Микроконтроллер; Производитель: NXP; Тип корпуса: LQFP64; Тип монтажа: Поверхностный; Наименование: LPC2129; Тип компонента: Микроконтроллер
footprint LQFP64
pins: 1 P0.21/PWM5/CAP13, 2 P0.22/CAP00/MAT00, 3 P0.23/RD2, 4 P1.19/TRACEPKT3, 5 P0.24/TD2, 6 Vss, 7 Vdda(3V3), 8 P1.18/TRACEPKT2, 9 P0.25/RD1, 10 TD1, 11 P0.27/AIN0CAP01MAT01, 12 P1.17/TRACEPKT1, 13 P0.28/AIN1CAP02MAT02, 14 P0.29/AIN2CAP03MAT03, 15 P0.30/AIN3EINT3CAP00, 16 P1.16/TRACEPKT0, 17 Vdd(1V8), 18 Vss, 19 P0.0/TXD0/PWM1, 20 P1.31/~{TRST}, 21 P0.1/RXD0/PWM3/EINT0, 22 P0.2/SCL/CAP0.0, 23 Vdd(3V3), 24 P1.26/RTCK, 25 Vss, 26 P0.3/SDA/MAT00/EINT1, 27 P0.4/SCK0/CAP01, 28 P1.25/EXTIN0, 29 P0.5/MISO0/MAT01, 30 P0.6/MOSI0/CAP0.2, 31 P0.7/SSEL0/PWM2/EINT2, 32 P1.24/TRACECLK, 33 P0.8/TXD1/PWM4, 34 P0.9/RXD1/PWM6/EINT3, 35 P0.10/RTS1/CAP1.0, 36 P1.23/PIPESTAT2, 37 P0.11/CTS1/CAP11, 38 P0.12/DSR1/MAT10, 39 P0.13/DTR1/MAT11, 40 P1.22/PIPESTAT1, 41 P0.14/DCD1/EINT1, 42 Vss, 43 Vdd(3V3), 44 P1.21/PIPESTAT0, 45 P0.15/RI1/EINT2, 46 P0.16EINT0MAT02CAP02, 47 P0.17/CAP12SCK1MAT12, 48 P1.20/TRACESYNC, 49 Vdd(1V8), 50 Vss, 51 Vdd(3V3), 52 P1.30/TMS, 53 P0.18CAP13MISO1MAT13, 54 P0.19MAT12MOSI1CAP12, 55 P0.20MAT13SSEL1EINT3, 56 P1.29/TCK, 57 ~{RESET}, 58 Vssa(PLL), 59 Vssa, 60 P1.28/TDI, 61 XTAL2, 62 XTAL1, 63 Vdda(1V8), 64 P1.27/TDO

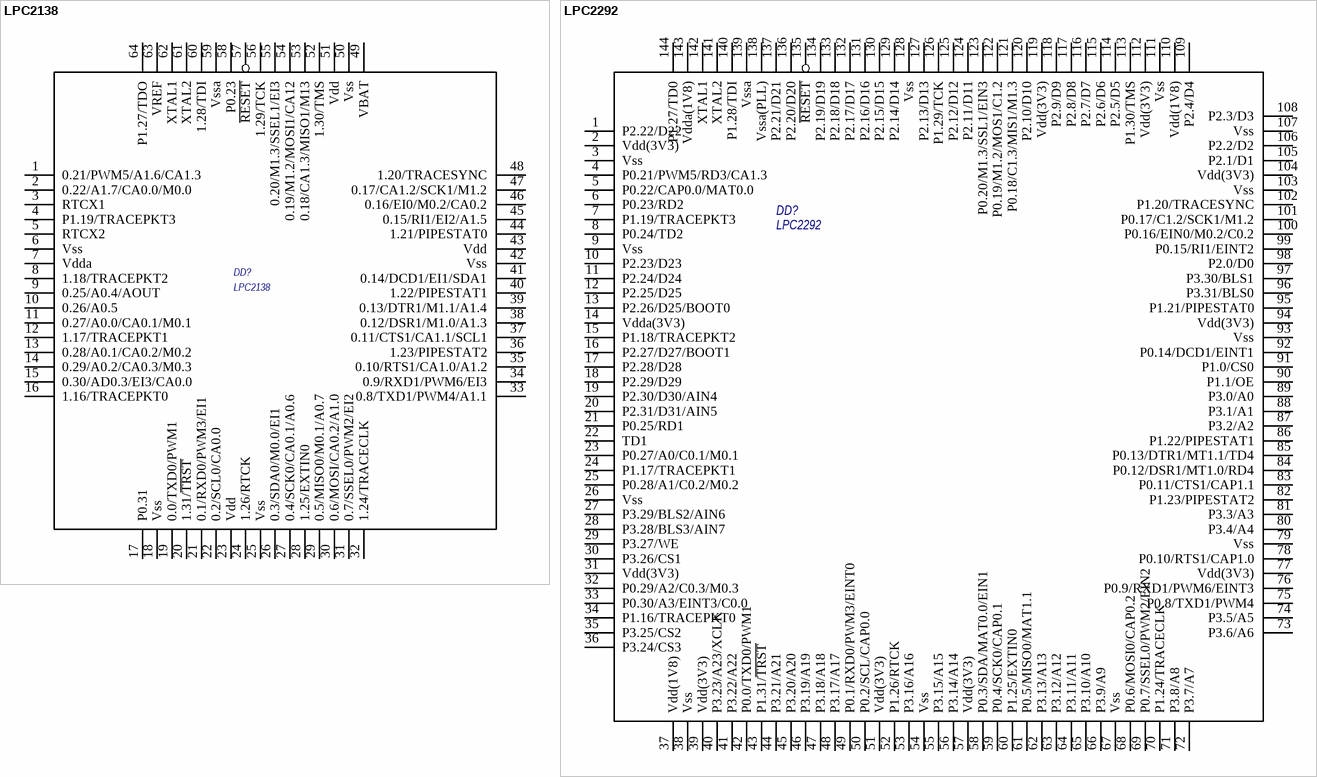
[diagram p3: symbols LPC2138 to LPC2292]

## LPC2138
designator DD?
Микроконтроллер; Примечание: NXP; Тип корпуса: LQFP64; Тип монтажа: Поверхностный; Value: *; Наименование: LPC2138; Тип компонента: Микроконтроллер
footprint LQFP64
pins: 1 0.21/PWM5/A1.6/CA1.3, 2 0.22/A1.7/CA0.0/M0.0, 3 RTCX1, 4 P1.19/TRACEPKT3, 5 RTCX2, 6 Vss, 7 Vdda, 8 1.18/TRACEPKT2, 9 0.25/A0.4/AOUT, 10 0.26/A0.5, 11 0.27/A0.0/CA0.1/M0.1, 12 1.17/TRACEPKT1, 13 0.28/A0.1/CA0.2/M0.2, 14 0.29/A0.2/CA0.3/M0.3, 15 0.30/AD0.3/EI3/CA0.0, 16 1.16/TRACEPKT0, 17 P0.31, 18 Vss, 19 0.0/TXD0/PWM1, 20 1.31/~{TRST}, 21 0.1/RXD0/PWM3/EI1, 22 0.2/SCL0/CA0.0, 23 Vdd, 24 1.26/RTCK, 25 Vss, 26 0.3/SDA0/M0.0/EI1, 27 0.4/SCK0/CA0.1/A0.6, 28 1.25/EXTIN0, 29 0.5/MISO0/M0.1/A0.7, 30 0.6/MOSI/CA0.2/A1.0, 31 0.7/SSEL0/PWM2/EI2, 32 1.24/TRACECLK, 33 0.8/TXD1/PWM4/A1.1, 34 0.9/RXD1/PWM6/EI3, 35 0.10/RTS1/CA1.0/A1.2, 36 1.23/PIPESTAT2, 37 0.11/CTS1/CA1.1/SCL1, 38 0.12/DSR1/M1.0/A1.3, 39 0.13/DTR1/M1.1/A1.4, 40 1.22/PIPESTAT1, 41 0.14/DCD1/EI1/SDA1, 42 Vss, 43 Vdd, 44 1.21/PIPESTAT0, 45 0.15/RI1/EI2/A1.5, 46 0.16/EI0/M0.2/CA0.2, 47 0.17/CA1.2/SCK1/M1.2, 48 1.20/TRACESYNC, 49 VBAT, 50 Vss, 51 Vdd, 52 1.30/TMS, 53 0.18/CA1.3/MISO1/M13, 54 0.19/M1.2/MOSI1/CA12, 55 0.20/M1.3/SSEL1/EI3, 56 1.29/TCK, 57 ~{RESET}, 58 P0.23, 59 Vssa, 60 1.28/TDI, 61 XTAL2, 62 XTAL1, 63 VREF, 64 P1.27/TDO

## LPC2292
designator DD?
Микроконтроллер; Наименование: NXP, LPC2292FBD144; Тип корпуса: LQFP144; Тип монтажа: Поверхностный; Value: *; Тип компонента: Микроконтроллер
footprint LQFP144
pins: 1 P2.22/D22, 2 Vdd(3V3), 3 Vss, 4 P0.21/PWM5/RD3/CA1.3, 5 P0.22/CAP0.0/MAT0.0, 6 P0.23/RD2, 7 P1.19/TRACEPKT3, 8 P0.24/TD2, 9 Vss, 10 P2.23/D23, 11 P2.24/D24, 12 P2.25/D25, 13 P2.26/D25/BOOT0, 14 Vdda(3V3), 15 P1.18/TRACEPKT2, 16 P2.27/D27/BOOT1, 17 P2.28/D28, 18 P2.29/D29, 19 P2.30/D30/AIN4, 20 P2.31/D31/AIN5, 21 P0.25/RD1, 22 TD1, 23 P0.27/A0/C0.1/M0.1, 24 P1.17/TRACEPKT1, 25 P0.28/A1/C0.2/M0.2, 26 Vss, 27 P3.29/BLS2/AIN6, 28 P3.28/BLS3/AIN7, 29 P3.27/WE, 30 P3.26/CS1, 31 Vdd(3V3), 32 P0.29/A2/C0.3/M0.3, 33 P0.30/A3/EINT3/C0.0, 34 P1.16/TRACEPKT0, 35 P3.25/CS2, 36 P3.24/CS3, 37 Vdd(1V8), 38 Vss, 39 Vdd(3V3), 40 P3.23/A23/XCLK, 41 P3.22/A22, 42 P0.0/TXD0/PWM1, 43 P1.31/~{TRST}, 44 P3.21/A21, 45 P3.20/A20, 46 P3.19/A19, 47 P3.18/A18, 48 P3.17/A17, 49 P0.1/RXD0/PWM3/EINT0, 50 P0.2/SCL/CAP0.0, 51 Vdd(3V3), 52 P1.26/RTCK, 53 P3.16/A16, 54 Vss, 55 P3.15/A15, 56 P3.14/A14, 57 Vdd(3V3), 58 P0.3/SDA/MAT0.0/EIN1, 59 P0.4/SCK0/CAP0.1, 60 P1.25/EXTIN0, 61 P0.5/MISO0/MAT1.1, 62 P3.13/A13, 63 P3.12/A12, 64 P3.11/A11, 65 P3.10/A10, 66 P3.9/A9, 67 Vss, 68 P0.6/MOSI0/CAP0.2, 69 P0.7/SSEL0/PWM2/EIN2, 70 P1.24/TRACECLK, 71 P3.8/A8, 72 P3.7/A7, 73 P3.6/A6, 74 P3.5/A5, 75 P0.8/TXD1/PWM4, 76 P0.9/RXD1/PWM6/EINT3, 77 Vdd(3V3), 78 P0.10/RTS1/CAP1.0, 79 Vss, 80 P3.4/A4, 81 P3.3/A3, 82 P1.23/PIPESTAT2, 83 P0.11/CTS1/CAP1.1, 84 P0.12/DSR1/MT1.0/RD4, 85 P0.13/DTR1/MT1.1/TD4, 86 P1.22/PIPESTAT1, 87 P3.2/A2, 88 P3.1/A1, 89 P3.0/A0, 90 P1.1/OE, 91 P1.0/CS0, 92 P0.14/DCD1/EINT1, 93 Vss, 94 Vdd(3V3), 95 P1.21/PIPESTAT0, 96 P3.31/BLS0, 97 P3.30/BLS1, 98 P2.0/D0, 99 P0.15/RI1/EINT2, 100 P0.16/EIN0/M0.2/C0.2, 101 P0.17/C1.2/SCK1/M1.2, 102 P1.20/TRACESYNC, 103 Vss, 104 Vdd(3V3), 105 P2.1/D1, 106 P2.2/D2, 107 Vss, 108 P2.3/D3, 109 P2.4/D4, 110 Vdd(1V8), 111 Vss, 112 Vdd(3V3), 113 P1.30/TMS, 114 P2.5/D5, 115 P2.6/D6, 116 P2.7/D7, 117 P2.8/D8, 118 P2.9/D9, 119 Vdd(3V3), 120 P2.10/D10, 121 P0.18/C1.3/MIS1/M1.3, 122 P0.19/M1.2/MOS1/C1.2, 123 P0.20/M1.3/SSL1/EIN3, 124 P2.11/D11, 125 P2.12/D12, 126 P1.29/TCK, 127 P2.13/D13, 128 Vss, 129 P2.14/D14, 130 P2.15/D15, 131 P2.16/D16, 132 P2.17/D17, 133 P2.18/D18, 134 P2.19/D19, 135 ~{RESET}, 136 P2.20/D20, 137 P2.21/D21, 138 Vssa(PLL), 139 Vssa, 140 P1.28/TDI, 141 XTAL2, 142 XTAL1, 143 Vdda(1V8), 144 P1.27/TD0

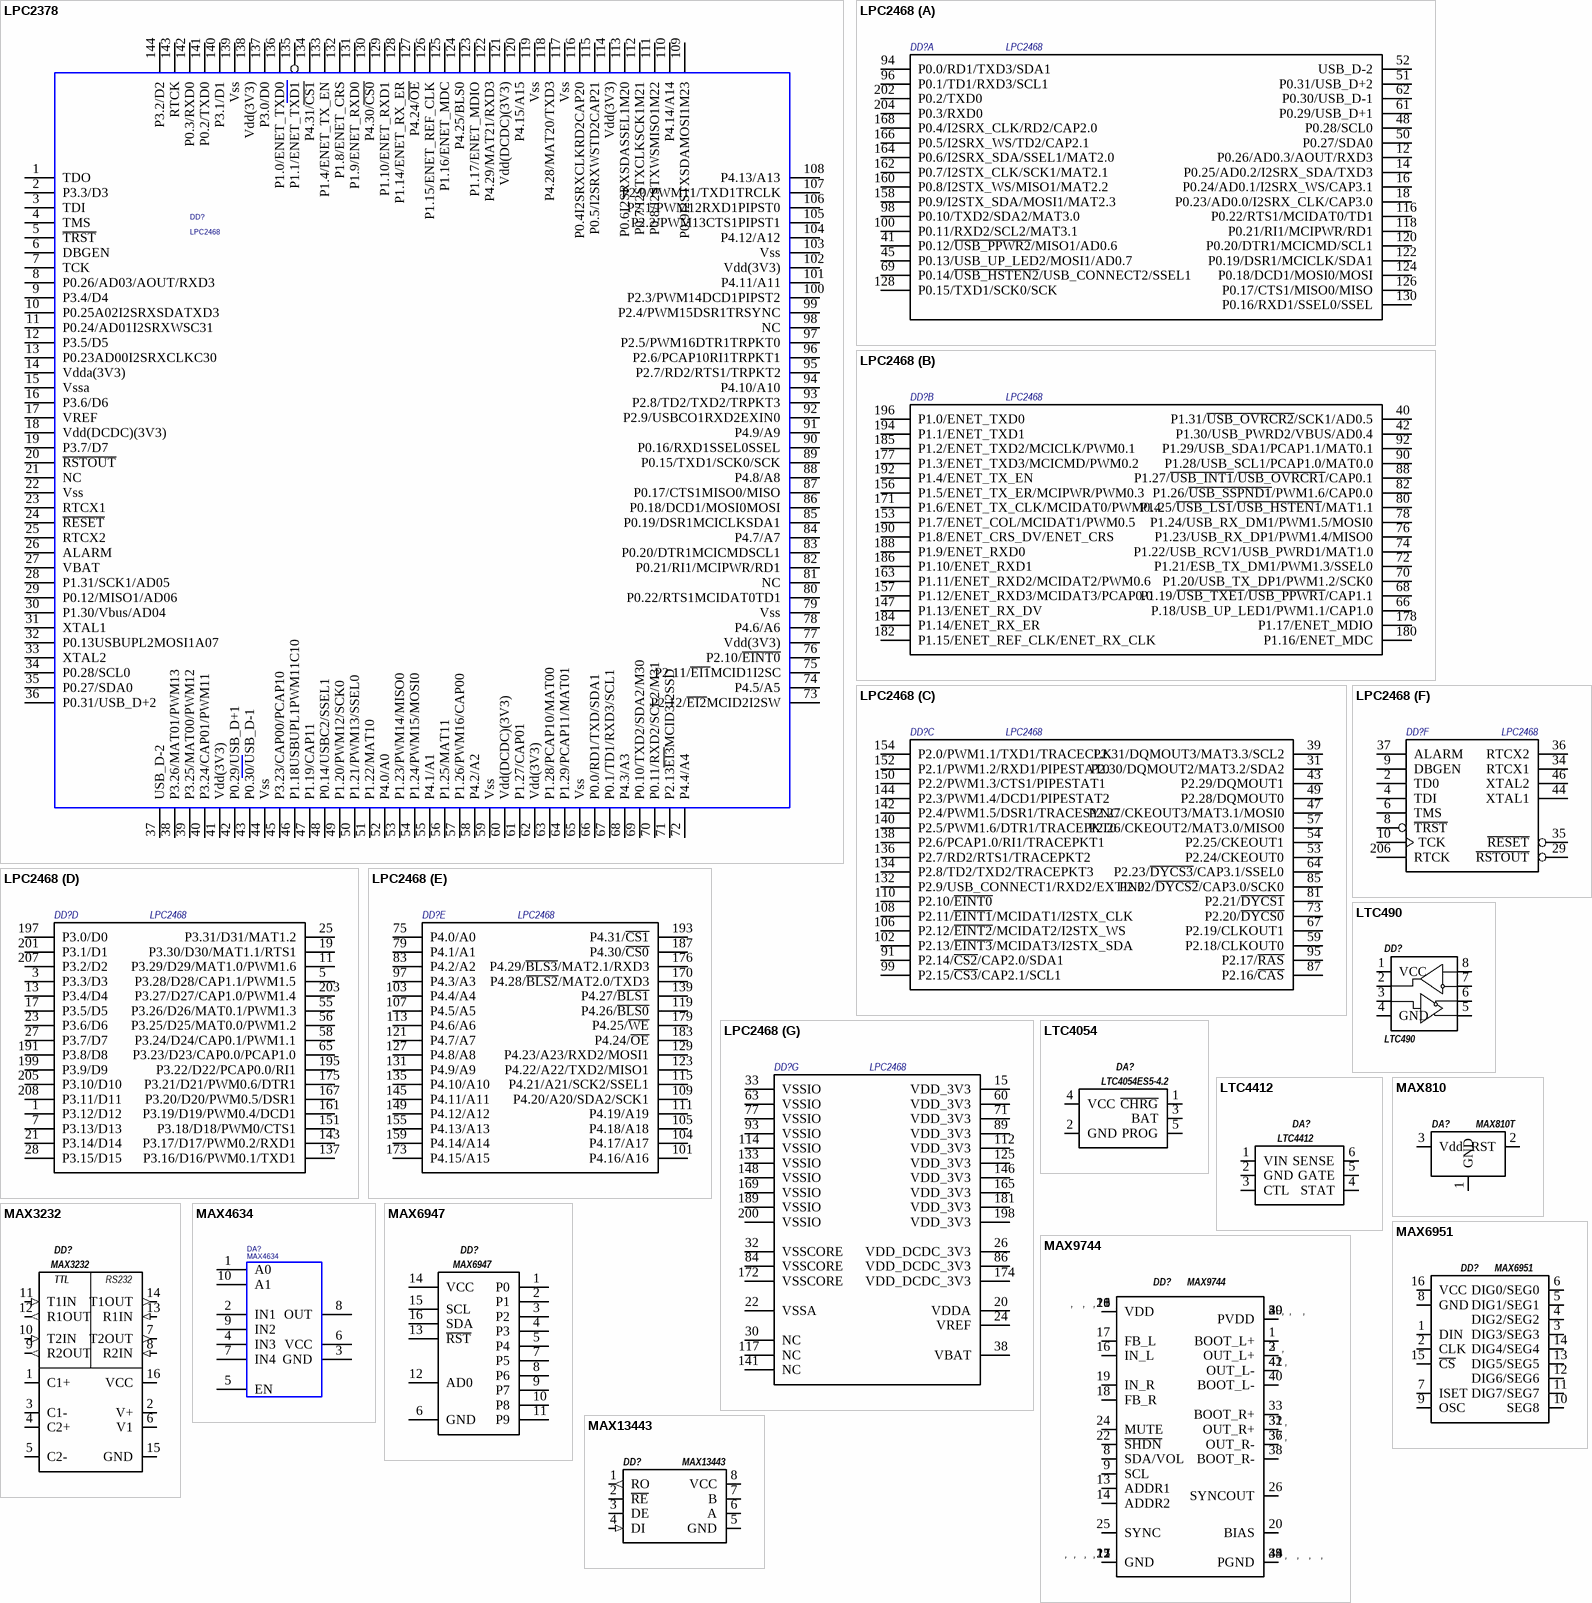
[diagram p4: symbols LPC2378 to MAX13443]

## LPC2378
designator DD?, comment LPC2468
Микроконтроллер; Наименование: NXP, LPC2378FBD144; Тип корпуса: LQFP144; Тип монтажа: Поверхностный; Value: *; Тип компонента: Микроконтроллер
footprint LQFP144
pins: 1 TDO, 2 P3.3/D3, 3 TDI, 4 TMS, 5 ~{TRST}, 6 DBGEN, 7 TCK, 8 P0.26/AD03/AOUT/RXD3, 9 P3.4/D4, 10 P0.25A02I2SRXSDATXD3, 11 P0.24/AD01I2SRXWSC31, 12 P3.5/D5, 13 P0.23AD00I2SRXCLKC30, 14 Vdda(3V3), 15 Vssa, 16 P3.6/D6, 17 VREF, 18 Vdd(DCDC)(3V3), 19 P3.7/D7, 20 ~{RSTOUT}, 21 NC, 22 Vss, 23 RTCX1, 24 ~{RESET}, 25 RTCX2, 26 ALARM, 27 VBAT, 28 P1.31/SCK1/AD05, 29 P0.12/MISO1/AD06, 30 P1.30/Vbus/AD04, 31 XTAL1, 32 P0.13USBUPL2MOSI1A07, 33 XTAL2, 34 P0.28/SCL0, 35 P0.27/SDA0, 36 P0.31/USB_D+2, 37 USB_D-2, 38 P3.26/MAT01/PWM13, 39 P3.25/MAT00/PWM12, 40 P3.24/CAP01/PWM11, 41 Vdd(3V3), 42 P0.29/USB_D+1, 43 P0.30/USB_D-1, 44 Vss, 45 P3.23/CAP00/PCAP10, 46 P1.18USBUPL1PWM11C10, 47 P1.19/CAP11, 48 P0.14/USBC2/SSEL1, 49 P1.20/PWM12/SCK0, 50 P1.21/PWM13/SSEL0, 51 P1.22/MAT10, 52 P4.0/A0, 53 P1.23/PWM14/MISO0, 54 P1.24/PWM15/MOSI0, 55 P4.1/A1, 56 P1.25/MAT11, 57 P1.26/PWM16/CAP00, 58 P4.2/A2, 59 Vss, 60 Vdd(DCDC)(3V3), 61 P1.27/CAP01, 62 Vdd(3V3), 63 P1.28/PCAP10/MAT00, 64 P1.29/PCAP11/MAT01, 65 Vss, 66 P0.0/RD1/TXD/SDA1, 67 P0.1/TD1/RXD3/SCL1, 68 P4.3/A3, 69 P0.10/TXD2/SDA2/M30, 70 P0.11/RXD2/SCL2/M31, 71 P2.13~{EI3}MCID3I2SSD, 72 P4.4/A4, 73 P2.12/~{EI2}MCID2I2SW, 74 P4.5/A5, 75 P2.11/~{EI1}MCID1I2SC, 76 P2.10/~{EINT0}, 77 Vdd(3V3), 78 P4.6/A6, 79 Vss, 80 P0.22/RTS1MCIDAT0TD1, 81 NC, 82 P0.21/RI1/MCIPWR/RD1, 83 P0.20/DTR1MCICMDSCL1, 84 P4.7/A7, 85 P0.19/DSR1MCICLKSDA1, 86 P0.18/DCD1/MOSI0MOSI, 87 P0.17/CTS1MISO0/MISO, 88 P4.8/A8, 89 P0.15/TXD1/SCK0/SCK, 90 P0.16/RXD1SSEL0SSEL, 91 P4.9/A9, 92 P2.9/USBCO1RXD2EXIN0, 93 P2.8/TD2/TXD2/TRPKT3, 94 P4.10/A10, 95 P2.7/RD2/RTS1/TRPKT2, 96 P2.6/PCAP10RI1TRPKT1, 97 P2.5/PWM16DTR1TRPKT0, 98 NC, 99 P2.4/PWM15DSR1TRSYNC, 100 P2.3/PWM14DCD1PIPST2, 101 P4.11/A11, 102 Vdd(3V3), 103 Vss, 104 P4.12/A12, 105 P2.2/PWM13CTS1PIPST1, 106 P2.1/PWM12RXD1PIPST0, 107 P2.0/PWM11/TXD1TRCLK, 108 P4.13/A13, 109 P0.9I2STXSDAMOSI1M23, 110 P4.14/A14, 111 P0.8/I2STXWSMISO1M22, 112 P0.7/I2STXCLKSCK1M21, 113 P0.6I2SRXSDASSEL1M20, 114 Vdd(3V3), 115 P0.5/I2SRXWSTD2CAP21, 116 P0.4I2SRXCLKRD2CAP20, 117 Vss, 118 P4.28/MAT20/TXD3, 119 Vss, 120 P4.15/A15, 121 Vdd(DCDC)(3V3), 122 P4.29/MAT21/RXD3, 123 P1.17/ENET_MDIO, 124 P4.25/BLS0, 125 P1.16/ENET_MDC, 126 P1.15/ENET_REF_CLK, 127 P4.24/~{OE}, 128 P1.14/ENET_RX_ER, 129 P1.10/ENET_RXD1, 130 P4.30/~{CS0}, 131 P1.9/ENET_RXD0, 132 P1.8/ENET_CRS, 133 P1.4/ENET_TX_EN, 134 P4.31/~{CS1}, 135 P1.1/ENET_TXD1, 136 P1.0/ENET_TXD0, 137 P3.0/D0, 138 Vdd(3V3), 139 Vss, 140 P3.1/D1, 141 P0.2/TXD0, 142 P0.3/RXD0, 143 RTCK, 144 P3.2/D2

## LPC2468
designator DD?
Микроконтроллер; Наименование: NXP, LPC2468FBD208; Тип корпуса: LQFP208; Тип монтажа: Поверхностный; Value: LPC2468; Тип компонента: Микроконтроллер
footprint LQFP208
part A pins: 12 P0.26/AD0.3/AOUT/RXD3, 14 P0.25/AD0.2/I2SRX_SDA/TXD3, 16 P0.24/AD0.1/I2SRX_WS/CAP3.1, 18 P0.23/AD0.0/I2SRX_CLK/CAP3.0, 41 P0.12/~{USB_PPWR2}/MISO1/AD0.6, 45 P0.13/USB_UP_LED2/MOSI1/AD0.7, 48 P0.28/SCL0, 50 P0.27/SDA0, 51 P0.31/USB_D+2, 52 USB_D-2, 61 P0.29/USB_D+1, 62 P0.30/USB_D-1, 69 P0.14/~{USB_HSTEN2}/USB_CONNECT2/SSEL1, 94 P0.0/RD1/TXD3/SDA1, 96 P0.1/TD1/RXD3/SCL1, 98 P0.10/TXD2/SDA2/MAT3.0, 100 P0.11/RXD2/SCL2/MAT3.1, 116 P0.22/RTS1/MCIDAT0/TD1, 118 P0.21/RI1/MCIPWR/RD1, 120 P0.20/DTR1/MCICMD/SCL1, 122 P0.19/DSR1/MCICLK/SDA1, 124 P0.18/DCD1/MOSI0/MOSI, 126 P0.17/CTS1/MISO0/MISO, 128 P0.15/TXD1/SCK0/SCK, 130 P0.16/RXD1/SSEL0/SSEL, 158 P0.9/I2STX_SDA/MOSI1/MAT2.3, 160 P0.8/I2STX_WS/MISO1/MAT2.2, 162 P0.7/I2STX_CLK/SCK1/MAT2.1, 164 P0.6/I2SRX_SDA/SSEL1/MAT2.0, 166 P0.5/I2SRX_WS/TD2/CAP2.1, 168 P0.4/I2SRX_CLK/RD2/CAP2.0, 202 P0.2/TXD0, 204 P0.3/RXD0
part B pins: 40 P1.31/~{USB_OVRCR2}/SCK1/AD0.5, 42 P1.30/USB_PWRD2/VBUS/AD0.4, 66 P.18/USB_UP_LED1/PWM1.1/CAP1.0, 68 P1.19/~{USB_TXE1}/~{USB_PPWR1}/CAP1.1, 70 P1.20/USB_TX_DP1/PWM1.2/SCK0, 72 P1.21/ESB_TX_DM1/PWM1.3/SSEL0, 74 P1.22/USB_RCV1/USB_PWRD1/MAT1.0, 76 P1.23/USB_RX_DP1/PWM1.4/MISO0, 78 P1.24/USB_RX_DM1/PWM1.5/MOSI0, 80 P1.25/~{USB_LS1}/~{USB_HSTEN1}/MAT1.1, 82 P1.26/~{USB_SSPND1}/PWM1.6/CAP0.0, 88 P1.27/~{USB_INT1}/~{USB_OVRCR1}/CAP0.1, 90 P1.28/USB_SCL1/PCAP1.0/MAT0.0, 92 P1.29/USB_SDA1/PCAP1.1/MAT0.1, 147 P1.13/ENET_RX_DV, 153 P1.7/ENET_COL/MCIDAT1/PWM0.5, 156 P1.5/ENET_TX_ER/MCIPWR/PWM0.3, 157 P1.12/ENET_RXD3/MCIDAT3/PCAP0.0, 163 P1.11/ENET_RXD2/MCIDAT2/PWM0.6, 171 P1.6/ENET_TX_CLK/MCIDAT0/PWM0.4, 177 P1.3/ENET_TXD3/MCICMD/PWM0.2, 178 P1.17/ENET_MDIO, 180 P1.16/ENET_MDC, 182 P1.15/ENET_REF_CLK/ENET_RX_CLK, 184 P1.14/ENET_RX_ER, 185 P1.2/ENET_TXD2/MCICLK/PWM0.1, 186 P1.10/ENET_RXD1, 188 P1.9/ENET_RXD0, 190 P1.8/ENET_CRS_DV/ENET_CRS, 192 P1.4/ENET_TX_EN, 194 P1.1/ENET_TXD1, 196 P1.0/ENET_TXD0
part C pins: 31 P2.30/DQMOUT2/MAT3.2/SDA2, 39 P2.31/DQMOUT3/MAT3.3/SCL2, 43 P2.29/DQMOUT1, 47 P2.27/CKEOUT3/MAT3.1/MOSI0, 49 P2.28/DQMOUT0, 53 P2.24/CKEOUT0, 54 P2.25/CKEOUT1, 57 P2.26/CKEOUT2/MAT3.0/MISO0, 59 P2.18/CLKOUT0, 64 P2.23/~{DYCS3}/CAP3.1/SSEL0, 67 P2.19/CLKOUT1, 73 P2.20/~{DYCS0}, 81 P2.21/~{DYCS1}, 85 P2.22/~{DYCS2}/CAP3.0/SCK0, 87 P2.16/~{CAS}, 91 P2.14/~{CS2}/CAP2.0/SDA1, 95 P2.17/~{RAS}, 99 P2.15/~{CS3}/CAP2.1/SCL1, 102 P2.13/~{EINT3}/MCIDAT3/I2STX_SDA, 106 P2.12/~{EINT2}/MCIDAT2/I2STX_WS, 108 P2.11/~{EINT1}/MCIDAT1/I2STX_CLK, 110 P2.10/~{EINT0}, 132 P2.9/USB_CONNECT1/RXD2/EXTIN0, 134 P2.8/TD2/TXD2/TRACEPKT3, 136 P2.7/RD2/RTS1/TRACEPKT2, 138 P2.6/PCAP1.0/RI1/TRACEPKT1, 140 P2.5/PWM1.6/DTR1/TRACEPKT0, 142 P2.4/PWM1.5/DSR1/TRACESYNC, 144 P2.3/PWM1.4/DCD1/PIPESTAT2, 150 P2.2/PWM1.3/CTS1/PIPESTAT1, 152 P2.1/PWM1.2/RXD1/PIPESTAT0, 154 P2.0/PWM1.1/TXD1/TRACECLK
part D pins: 1 P3.12/D12, 3 P3.3/D3, 5 P3.28/D28/CAP1.1/PWM1.5, 7 P3.13/D13, 11 P3.29/D29/MAT1.0/PWM1.6, 13 P3.4/D4, 17 P3.5/D5, 19 P3.30/D30/MAT1.1/RTS1, 21 P3.14/D14, 23 P3.6/D6, 25 P3.31/D31/MAT1.2, 27 P3.7/D7, 28 P3.15/D15, 55 P3.26/D26/MAT0.1/PWM1.3, 56 P3.25/D25/MAT0.0/PWM1.2, 58 P3.24/D24/CAP0.1/PWM1.1, 65 P3.23/D23/CAP0.0/PCAP1.0, 137 P3.16/D16/PWM0.1/TXD1, 143 P3.17/D17/PWM0.2/RXD1, 151 P3.18/D18/PWM0/CTS1, 161 P3.19/D19/PWM0.4/DCD1, 167 P3.20/D20/PWM0.5/DSR1, 175 P3.21/D21/PWM0.6/DTR1, 191 P3.8/D8, 195 P3.22/D22/PCAP0.0/RI1, 197 P3.0/D0, 199 P3.9/D9, 201 P3.1/D1, 203 P3.27/D27/CAP1.0/PWM1.4, 205 P3.10/D10, 207 P3.2/D2, 208 P3.11/D11
part E pins: 75 P4.0/A0, 79 P4.1/A1, 83 P4.2/A2, 97 P4.3/A3, 101 P4.16/A16, 103 P4.4/A4, 104 P4.17/A17, 105 P4.18/A18, 107 P4.5/A5, 109 P4.20/A20/SDA2/SCK1, 111 P4.19/A19, 113 P4.6/A6, 115 P4.21/A21/SCK2/SSEL1, 119 P4.26/~{BLS0}, 121 P4.7/A7, 123 P4.22/A22/TXD2/MISO1, 127 P4.8/A8, 129 P4.23/A23/RXD2/MOSI1, 131 P4.9/A9, 135 P4.10/A10, 139 P4.27/~{BLS1}, 145 P4.11/A11, 149 P4.12/A12, 155 P4.13/A13, 159 P4.14/A14, 170 P4.28/~{BLS2}/MAT2.0/TXD3, 173 P4.15/A15, 176 P4.29/~{BLS3}/MAT2.1/RXD3, 179 P4.25/~{WE}, 183 P4.24/~{OE}, 187 P4.30/~{CS0}, 193 P4.31/~{CS1}
part F pins: 2 TD0, 4 TDI, 6 TMS, 8 ~{TRST}, 9 DBGEN, 10 TCK, 29 ~{RSTOUT}, 34 RTCX1, 35 ~{RESET}, 36 RTCX2, 37 ALARM, 44 XTAL1, 46 XTAL2, 206 RTCK
part G pins: 15 VDD_3V3, 20 VDDA, 22 VSSA, 24 VREF, 26 VDD_DCDC_3V3, 30 NC, 32 VSSCORE, 33 VSSIO, 38 VBAT, 60 VDD_3V3, 63 VSSIO, 71 VDD_3V3, 77 VSSIO, 84 VSSCORE, 86 VDD_DCDC_3V3, 89 VDD_3V3, 93 VSSIO, 112 VDD_3V3, 114 VSSIO, 117 NC, 125 VDD_3V3, 133 VSSIO, 141 NC, 146 VDD_3V3, 148 VSSIO, 165 VDD_3V3, 169 VSSIO, 172 VSSCORE, 174 VDD_DCDC_3V3, 181 VDD_3V3, 189 VSSIO, 198 VDD_3V3, 200 VSSIO

## LTC490
designator DD?
Интерфейс RS422/RS485; Производитель: Linear Technology; Тип корпуса: SO8; Тип монтажа: Поверхностный; Наименование: LTC490; Тип компонента: Интерфейс RS422/RS485
footprint SO8
pins: 1 VCC, 2 R, 3 D, 4 GND, 5 Y, 6 Z, 7 B, 8 A

## LTC4054
designator DA?, comment LTC4054ES5-4.2
Контроллер заряда Li-ion АКБ; Производитель: Linear Technology; Тип корпуса: SOT-23-5; Тип монтажа: Поверхностный; Характеристики: Вх. 4.5-6.5В, вых. 4.2В 600мА; Наименование: LTC4054ES5-4.2; Тип компонента: Контроллер заряда Li-ion АКБ; Value: *
footprint SOT23-5
pins: 1 ~{CHRG}, 2 GND, 3 BAT, 4 VCC, 5 PROG

## LTC4412
designator DA?
Контроллер питания; Производитель: Linear Technology; Тип корпуса: SOT23-6; Тип монтажа: Поверхностный; Характеристики: Вх. 2.5-28В; Наименование: LTC4412; Тип компонента: Контроллер питания
footprint SOT23-6
pins: 1 VIN, 2 GND, 3 CTL, 4 STAT, 5 GATE, 6 SENSE

## MAX810
designator DA?, comment MAX810T
Монитор питания; Производитель: ON Semiconductor; Тип корпуса: SOT-23; Тип монтажа: Поверхностный; Характеристики: Порог 2.93В; Value: *; Наименование: MAX810T; Тип компонента: Монитор питания
footprint SOT23-3
pins: 1 GND, 2 RST, 3 Vdd

## MAX3232
designator DD?
Интерфейс RS232 2 кан.; Производитель: Maxim Semiconductor; Тип корпуса: SO16; Тип монтажа: Поверхностный; Характеристики: 120кБит/с; Наименование: MAX3232; Тип компонента: Интерфейс RS232 2 кан.
footprint SO16-3.9
pins: 1 C1+, 2 V+, 3 C1-, 4 C2+, 5 C2-, 6 V1, 7 T2OUT (out), 8 R2IN (in), 9 R2OUT (out), 10 T2IN (in), 11 T1IN (in), 12 R1OUT (out), 13 R1IN (in), 14 T1OUT (out), 15 GND, 16 VCC
1 alternate drawing of the same symbol
text: TTL; RS232

## MAX4634
designator DA?
Микросхема - Мультиплексор; Наименование: Maxim Semiconductor, MAX4634EUB+; Тип корпуса: USOP; Тип монтажа: Поверхностный; Value: *; Тип компонента: Микросхема - Мультиплексор
footprint USOP
pins: 1 A0, 2 IN1, 3 GND, 4 IN3, 5 EN, 6 VCC, 7 IN4, 8 OUT, 9 IN2, 10 A1

## MAX6947
designator DD?
Контроллер LED; Производитель: MAXIM; Тип корпуса: TQFN16; Тип монтажа: Поверхностный; Характеристики: 10 LEDs; Наименование: MAX6947; Тип компонента: Контроллер LED
footprint QFN16-0.5
pins: 1 P0, 2 P1, 3 P2, 4 P3, 5 P4, 6 GND, 7 P5, 8 P6, 9 P7, 10 P8, 11 P9, 12 AD0, 13 ~{RST}, 14 VCC, 15 SCL, 16 SDA

## MAX6951
designator DD?
Контроллер LED матрицы; Производитель: Maxim; Тип корпуса: SO16; Тип монтажа: Поверхностный; Характеристики: Размеры матрицы до 8х8; Наименование: MAX6951; Тип компонента: Контроллер LED матрицы
footprint TSSOP16_P
pins: 1 DIN, 2 CLK, 3 DIG3/SEG3, 4 DIG2/SEG2, 5 DIG1/SEG1, 6 DIG0/SEG0, 7 ISET, 8 GND, 9 OSC, 10 SEG8, 11 DIG7/SEG7, 12 DIG6/SEG6, 13 DIG5/SEG5, 14 DIG4/SEG4, 15 ~{CS}, 16 VCC

## MAX9744
designator DD?
Усилитель аудио; Производитель: Maxim; Тип монтажа: Поверхностный; Характеристики: 20Вт класс D 5-12В стерео; Наименование: MAX9744; Тип компонента: Усилитель аудио
footprint VQFN44_P
pins: 0 PGND, 1 BOOT_L+, 2 OUT_L+, 3 OUT_L+, 4 PVDD, 5 PVDD, 6 VDD, 7 GND, 8 SDA/VOL, 9 SCL, 10 VDD, 11 GND, 12 GND, 13 ADDR1, 14 ADDR2, 15 GND, 16 IN_L, 17 FB_L, 18 FB_R, 19 IN_R, 20 BIAS, 21 VDD, 22 ~{SHDN}, 24 MUTE, 25 SYNC, 26 SYNCOUT, 27 GND, 28 VDD, 29 PVDD, 30 PVDD, 31 OUT_R+, 32 OUT_R+, 33 BOOT_R+, 34 PGND, 35 PGND, 36 OUT_R-, 37 OUT_R-, 38 BOOT_R-, 39 PGND, 40 BOOT_L-, 41 OUT_L-, 42 OUT_L-, 43 PGND, 44 PGND
text: ,

## MAX13443
designator DD?
Интерфейс RS485; Производитель: Maxim Semiconductor; Тип корпуса: SO8; Тип монтажа: Поверхностный; Характеристики: 10Мбит/с, 128 устройств на линии; Наименование: MAX13443; Тип компонента: Интерфейс RS485
footprint SO8
pins: 1 RO (out), 2 ~{RE}, 3 DE, 4 DI (in), 5 GND, 6 A, 7 B, 8 VCC

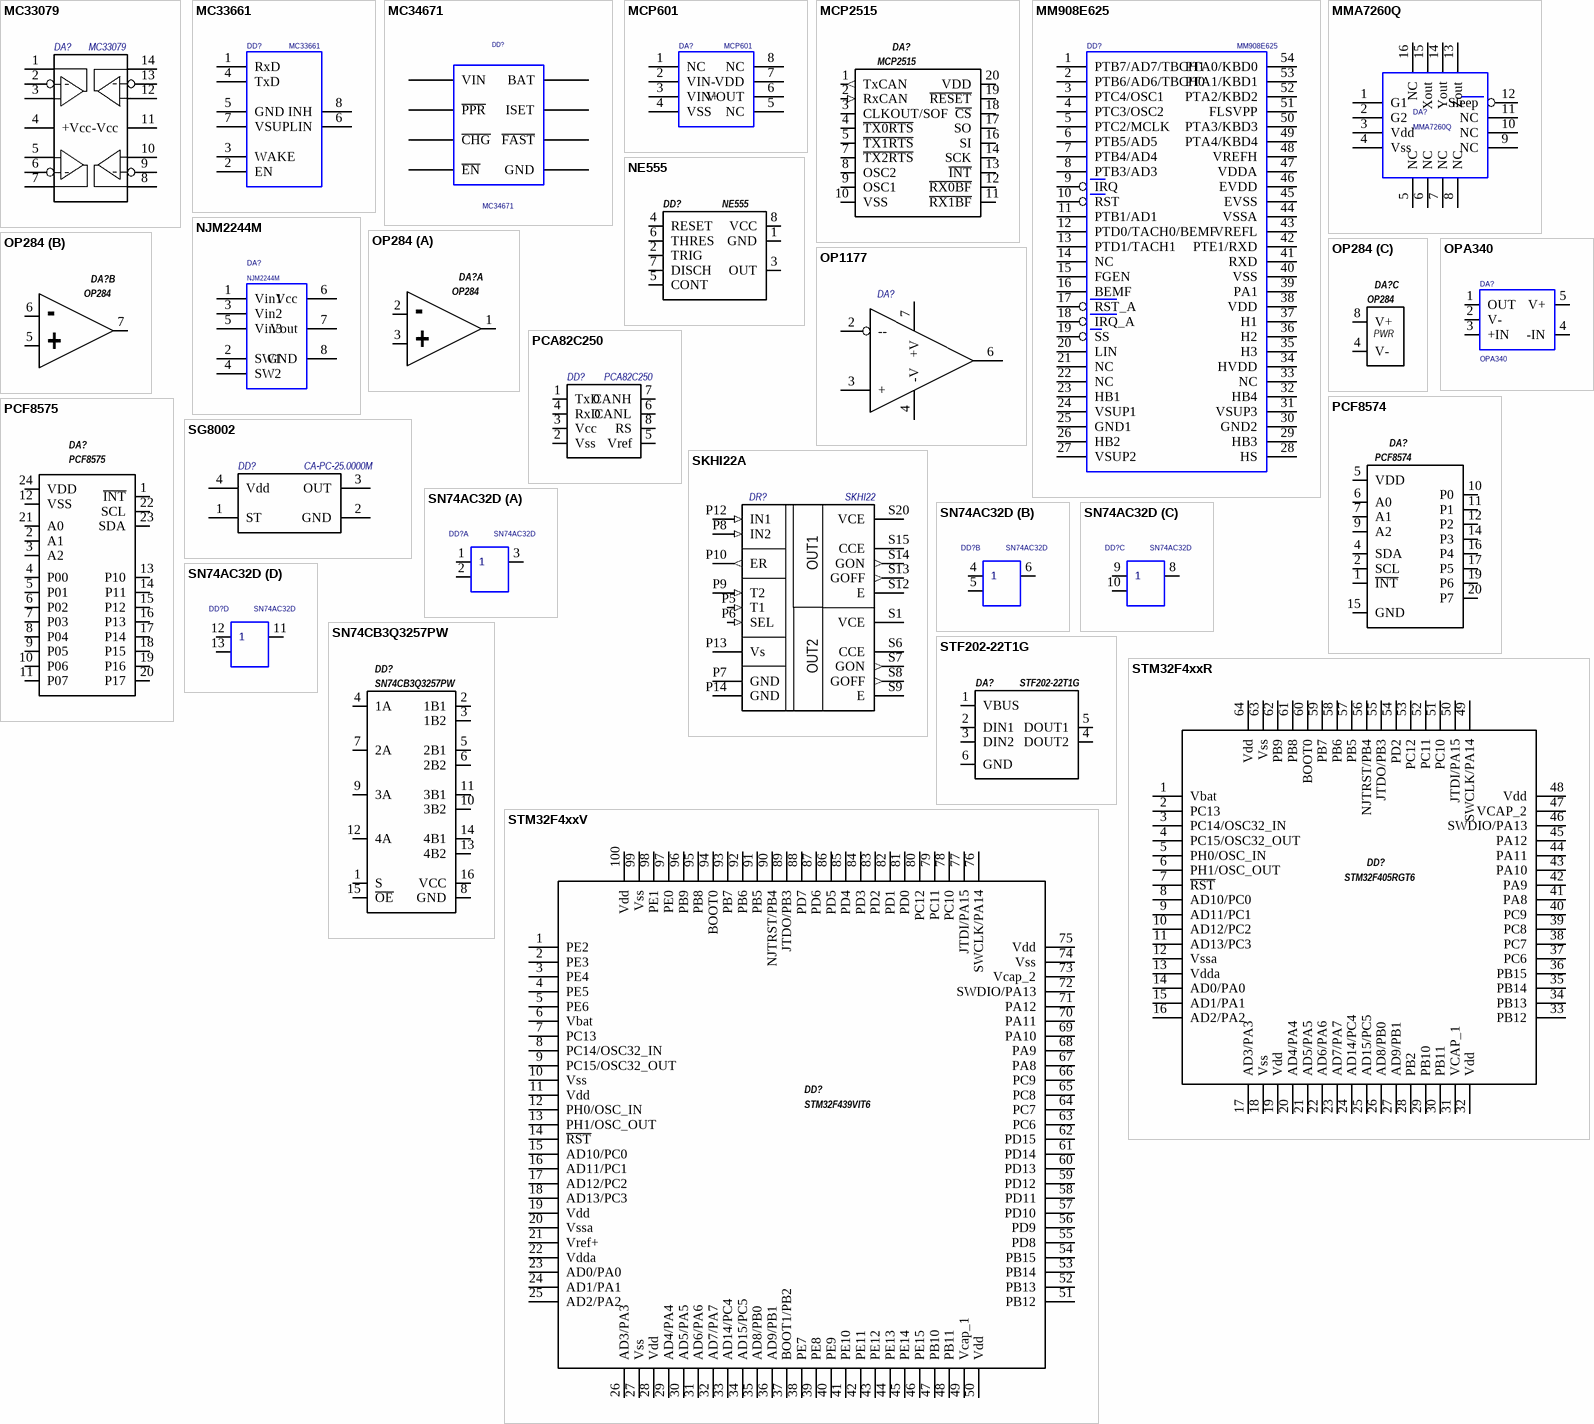
[diagram p5: symbols MC33079 to STM32F4xxV]

## MC33079
designator DA?
Микросхема - Операционный усилитель; Наименование: ON Semiconductor, MC33079D; Тип корпуса: SO14; Тип монтажа: Поверхностный; Тип компонента: Микросхема - Операционный усилитель
footprint SO14
pins: 1, 2, 3, 4 +Vcc, 5, 6, 7, 8, 9, 10, 11 -Vcc, 12, 13, 14

## MC33661
designator DD?
Микросхема - Драйвер LIN; Наименование: Freescale Semiconductor, MC33661; Тип корпуса: SO8; Тип монтажа: Поверхностный; Value: *; Тип компонента: Микросхема - Драйвер LIN
footprint SO8
pins: 1 RxD, 2 EN, 3 WAKE, 4 TxD, 5 GND, 6 LIN, 7 VSUP, 8 INH

## MC34671
designator DD?
Микросхема - Контроль заряда; Наименование: Freescale Semiconductor, MC34671AEPR2; Тип корпуса: UDFN; Тип монтажа: Поверхностный; Value: *; Тип компонента: Микросхема - Контроль заряда
footprint MC34671
pins: 1 VIN, 2 ~{PPR}, 3 ~{CHG}, 4 ~{EN}, 5 GND, 6 ~{FAST}, 7 ISET, 8 BAT, 9 hidden

## MCP601
designator DA?
Микросхема - Операционный усилитель; Наименование: Microchip, MCP601-I/SN; Тип корпуса: SO8; Тип монтажа: Поверхностный; Value: *; Тип компонента: Микросхема - Операционный усилитель
footprint SO8
pins: 1 NC, 2 VIN-, 3 VIN+, 4 VSS, 5 NC, 6 VOUT, 7 VDD, 8 NC

## MCP2515
designator DA?
Интерфейс CAN SPI; Производитель: Microchip; Тип корпуса: SSOP20; Тип монтажа: Поверхностный; Характеристики: 1Мб/с; Наименование: MCP2515; Тип компонента: Интерфейс CAN SPI
footprint SSOP20-4.4
pins: 1 TxCAN (out), 2 RxCAN (in), 3 CLKOUT/SOF, 4 ~{TX0RTS}, 5 ~{TX1RTS}, 7 ~{TX2RTS}, 8 OSC2, 9 OSC1, 10 VSS, 11 ~{RX1BF}, 12 ~{RX0BF}, 13 ~{INT}, 14 SCK, 16 SI, 17 SO, 18 ~{CS}, 19 ~{RESET}, 20 VDD

## MM908E625
designator DD?
Микросхема - Драйвер двигателя; Наименование: Freescale Semiconductor, MM908E625; Тип корпуса: SOIC54_WB-EP; Тип монтажа: Поверхностный; Value: *; Тип компонента: Микросхема - Драйвер двигателя
footprint SOIC54_WB-EP
pins: 1 PTB7/AD7/TBCH1, 2 PTB6/AD6/TBCH0, 3 PTC4/OSC1, 4 PTC3/OSC2, 5 PTC2/MCLK, 6 PTB5/AD5, 7 PTB4/AD4, 8 PTB3/AD3, 9 IRQ, 10 RST, 11 PTB1/AD1, 12 PTD0/TACH0/BEMF, 13 PTD1/TACH1, 14 NC, 15 FGEN, 16 BEMF, 17 RST_A, 18 IRQ_A, 19 SS, 20 LIN, 21 NC, 22 NC, 23 HB1, 24 VSUP1, 25 GND1, 26 HB2, 27 VSUP2, 28 HS, 29 HB3, 30 GND2, 31 VSUP3, 32 HB4, 33 NC, 34 HVDD, 35 H3, 36 H2, 37 H1, 38 VDD, 39 PA1, 40 VSS, 41 RXD, 42 PTE1/RXD, 43 VREFL, 44 VSSA, 45 EVSS, 46 EVDD, 47 VDDA, 48 VREFH, 49 PTA4/KBD4, 50 PTA3/KBD3, 51 FLSVPP, 52 PTA2/KBD2, 53 PTA1/KBD1, 54 PTA0/KBD0, 55 GND (power) hidden

## MMA7260Q
designator DA?
Датчик - Акселерометр; Наименование: Freescale, MMA7260Q; Тип корпуса: QFN; Тип монтажа: Поверхностный; Value: *; Тип компонента: Датчик - Акселерометр
footprint QFN
pins: 1 G1, 2 G2, 3 Vdd, 4 Vss, 5 NC, 6 NC, 7 NC, 8 NC, 9 NC, 10 NC, 11 NC, 12 Sleep, 13 Zout, 14 Yout, 15 Xout, 16 NC, 17 hidden

## NE555
designator DD?
Таймер аналоговый; Примечание: Texas Instruments; Тип корпуса: SO8-3.9; Тип монтажа: Поверхностный; Наименование: NE555
footprint SO8-3.9
pins: 1 GND, 2 TRIG, 3 OUT, 4 RESET, 5 CONT, 6 THRES, 7 DISCH, 8 VCC

## NJM2244M
designator DA?
Микросхема - Видео переключатель; Наименование: JRC, NJM2244M; Тип корпуса: SO8; Тип монтажа: Поверхностный; Value: *; Тип компонента: Микросхема - Видео переключатель
footprint SO8
pins: 1 Vin1, 2 SW1, 3 Vin2, 4 SW2, 5 Vin3, 6 Vcc, 7 Vout, 8 GND

## OP284
designator DA?
Операционный усилитель; Производитель: Analog Devices; Тип корпуса: SO8; Тип монтажа: Поверхностный; Характеристики: 3-36В, 10мА, rail-to-rail 200мВ, 4МГц; Наименование: OP284; Тип компонента: Операционный усилитель
footprint SO8-3.9
part A pins: 1 outA, 2 -inA, 3 +inA
part B pins: 5 +inB, 6 -inB, 7 outB
part C pins: 4 V-, 8 V+
part A text: -; +
part B text: -; +
part C text: PWR

## OP1177
designator DA?  (value not drawn)
Микросхема - Операционный усилитель; Наименование: Analog Devices, OP1177; Тип корпуса: SO8; Тип монтажа: Поверхностный; Тип компонента: Микросхема - Операционный усилитель
footprint SO8
pins: 2 --, 3 +, 4 -V, 6 Vout, 7 +V

## OPA340
designator DA?
Микросхема - Операционный усилитель; Наименование: Texas Instruments, OPA340NA/250; Тип корпуса: SOT-23-5; Тип монтажа: Поверхностный; Value: *; Тип компонента: Микросхема - Операционный усилитель
footprint SOT23-5
pins: 1 OUT, 2 V-, 3 +IN, 4 -IN, 5 V+

## PCA82C250
designator DD?
Микросхема - Драйвер CAN; Наименование: NXP, PCA82C250T; Тип корпуса: SO8; Тип монтажа: Поверхностный; Value: *; Тип компонента: Микросхема - Драйвер CAN
footprint SO8
pins: 1 TxD, 2 Vss, 3 Vcc, 4 RxD, 5 Vref, 6 CANL, 7 CANH, 8 RS
1 alternate drawing of the same symbol

## PCF8574
designator DA?
Расширитель ввода-вывода 8 кан.; Производитель: NXP; Тип корпуса: SSOP20; Тип монтажа: Поверхностный; Наименование: PCF8574; Тип компонента: Расширитель ввода-вывода 8 кан.
footprint SSOP20-4.4
pins: 1 ~{INT}, 2 SCL, 4 SDA, 5 VDD, 6 A0, 7 A1, 9 A2, 10 P0, 11 P1, 12 P2, 14 P3, 15 GND, 16 P4, 17 P5, 19 P6, 20 P7

## PCF8575
designator DA?
Расширитель ввода-вывода 8 кан.; Производитель: NXP; Тип корпуса: SSOP20; Тип монтажа: Поверхностный; Наименование: PCF8575; Тип компонента: Расширитель ввода-вывода 8 кан.
footprint SSOP24-5.3
pins: 1 ~{INT}, 2 A1, 3 A2, 4 P00, 5 P01, 6 P02, 7 P03, 8 P04, 9 P05, 10 P06, 11 P07, 12 VSS, 13 P10, 14 P11, 15 P12, 16 P13, 17 P14, 18 P15, 19 P16, 20 P17, 21 A0, 22 SCL, 23 SDA, 24 VDD

## SG8002
designator DD?, comment CA-PC-25.0000M
Прогр. генератор Мгц; Наименование: SG-8002CA-25.000 M SCM Epson; Примечание: SG-8002JF-40.000 M SCM Epson; Тип монтажа: Поверхностный; Value: CA-PC-25.0000M; Тип компонента: Прогр. генератор Мгц
footprint SG8002 (PROGRAMMABLE HIGH-FREQUENCY CRYSTAL OSCILLATOR)
pins: 1 ST, 2 GND, 3 OUT, 4 Vdd

## SKHI22A
designator DR?, comment SKHI22
Микросхема - Драйвер IGBT; Наименование: SEMIKRON, SKHI22A/R; Тип монтажа: Штыревой; Value: *; Тип компонента: Микросхема - Драйвер IGBT
footprint SKHI22 (IGBT DRIVER)
pins: P5 T1 (in), P6 SEL (in), P7 GND (power), P8 IN2 (in), P9 T2 (in), P10 ER (out), P11 NC hidden, P12 IN1 (in), P13 Vs (power), P14 GND (power), S1 VCE, S6 CCE, S7 GON (out), S8 GOFF (out), S9 E, S12 E, S13 GOFF (out), S14 GON (out), S15 CCE, S20 VCE
text: OUT1; OUT2

## SN74AC32D
designator DD?
Микросхема - Логика; Тип корпуса: SO14; Тип монтажа: Поверхностный; Value: *; Наименование: SN74AC32D; Тип компонента: Микросхема - Логика
footprint SO14
pins on every part: 7 GND (power) hidden, 14 5V (power) hidden
part A pins: 1 1A, 2 1B, 3 1Y
part B pins: 4 2A, 5 2B, 6 2Y
part C pins: 8 3Y, 9 3A, 10 3B
part D pins: 11 4Y, 12 4A, 13 4B

## SN74CB3Q3257PW
designator DD?
Мультиплексор 2:1 4кан.; Производитель: Texas Instruments; Тип корпуса: TSSOP16; Тип монтажа: Поверхностный; Характеристики: 500МГц 6.5нс; Наименование: SN74CB3Q3257PW
footprint SSOP16-4.4
pins: 1 S, 2 1B1, 3 1B2, 4 1A, 5 2B1, 6 2B2, 7 2A, 8 GND, 9 3A, 10 3B2, 11 3B1, 12 4A, 13 4B2, 14 4B1, 15 ~{OE}, 16 VCC

## STF202-22T1G
designator DA?
Интерфейс USB защита+фильтр; Производитель: ON Semiconductor; Тип корпуса: SOT23-6; Тип монтажа: Поверхностный; Наименование: STF202-22T1G; Тип компонента: Интерфейс USB защита+фильтр
footprint SOT23-6
pins: 1 VBUS, 2 DIN1, 3 DIN2, 4 DOUT2, 5 DOUT1, 6 GND